# Altium schematic symbol library MCU_ST_STM32G0.SchLib: 252 symbols (part 3 of 5)
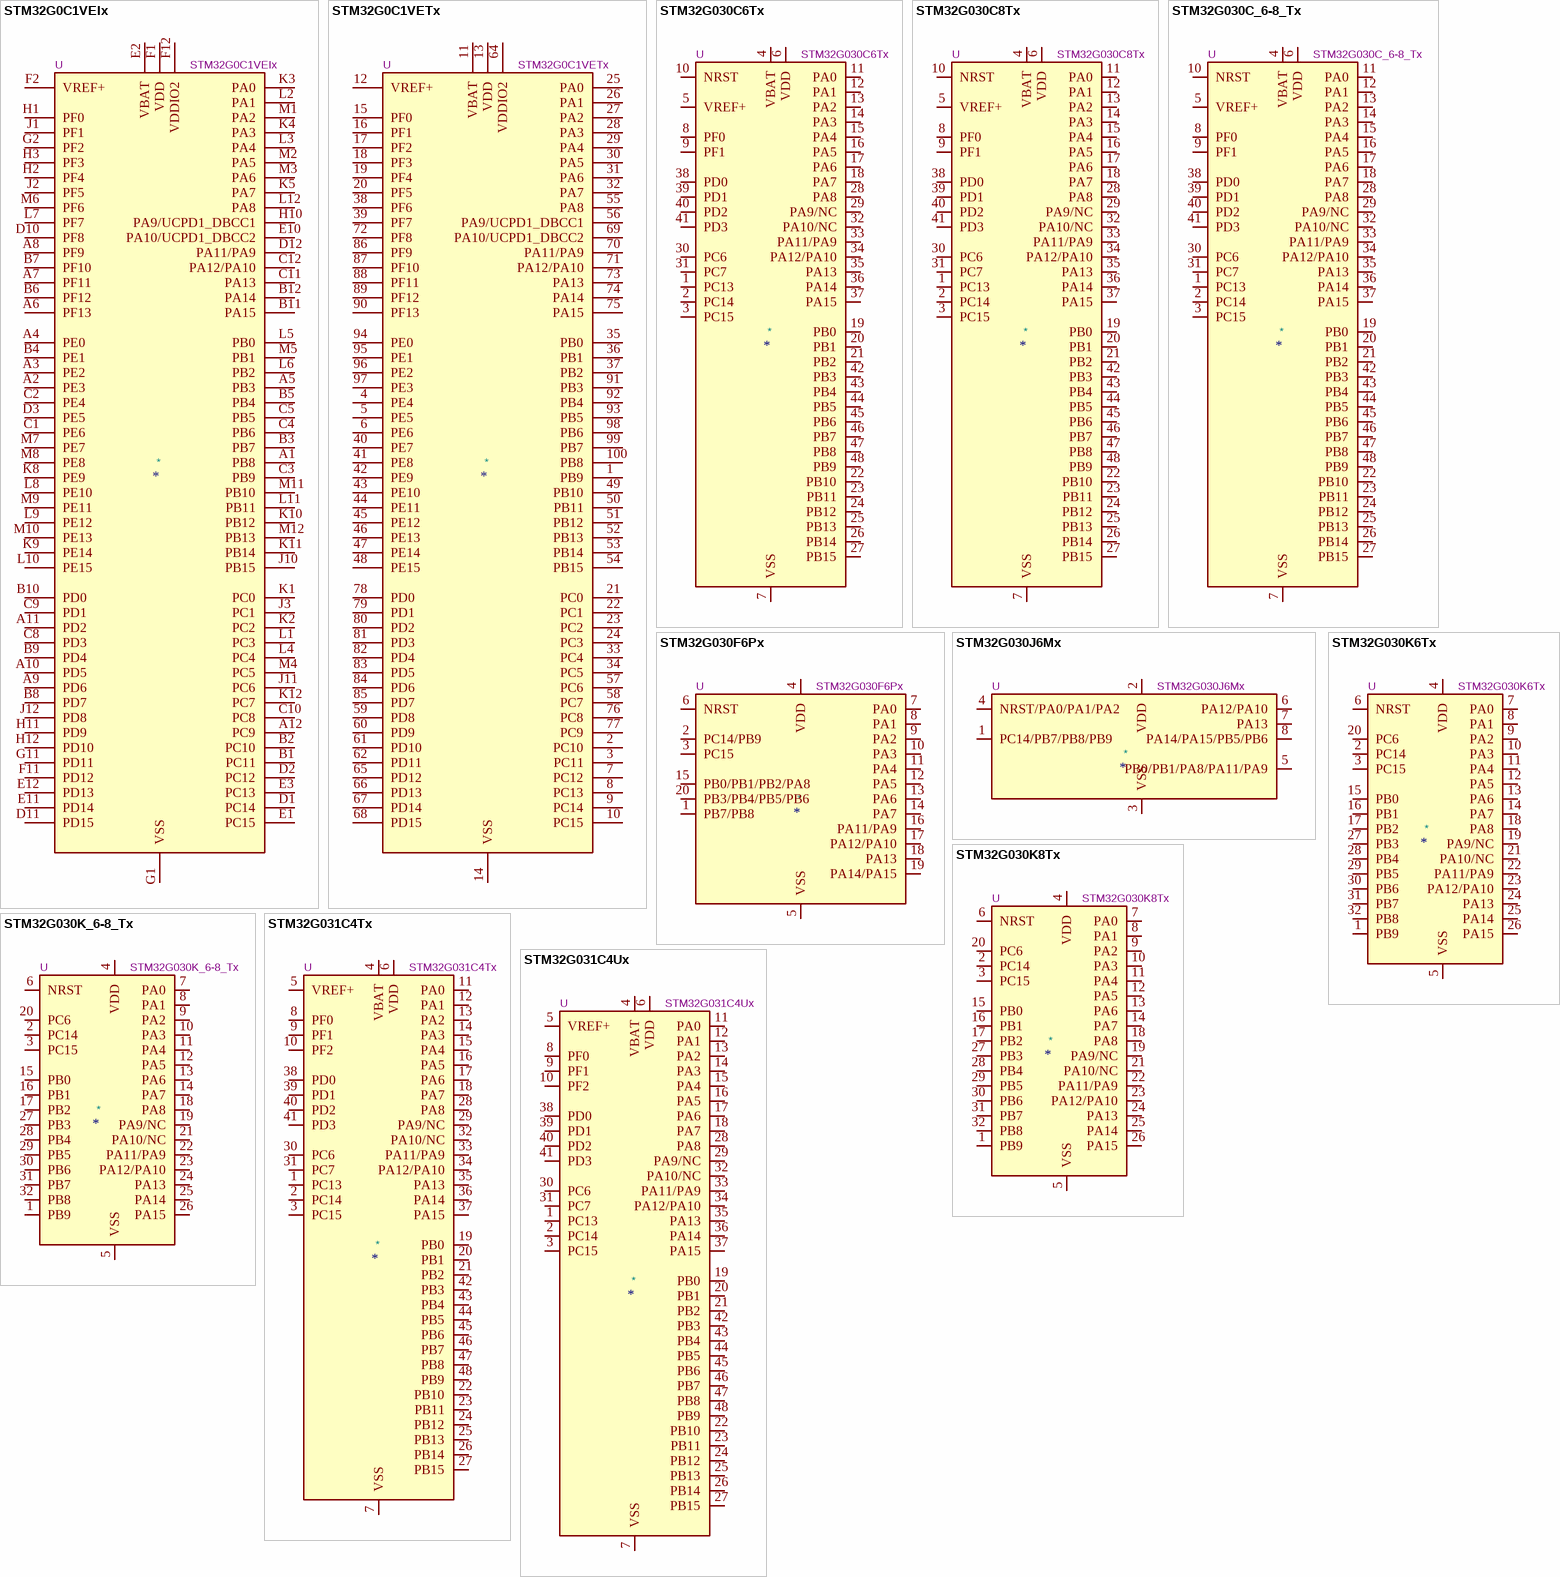
[diagram p21: symbols STM32G0C1VEIx to STM32G031C4Ux]

## STM32G030K8Tx
designator *  value STM32G030K8Tx  Reference: U
ki_keywords: Arm Cortex-M0+ STM32G0 STM32G0x0 Value line; ki_description: STMicroelectronics Arm Cortex-M0+ MCU, 64KB flash, 8KB RAM, 64 MHz, 2.0-3.6V, 29 GPIO, LQFP32; ki_fp_filters: LQFP*7x7mm*P0.8mm*; Footprint: Package_QFP:LQFP-32_7x7mm_P0.8mm; Datasheet: https://www.st.com/resource/en/datasheet/stm32g030k8.pdf
pins: 1 PB9, 2 PC14, 3 PC15, 4 VDD, 5 VSS, 6 NRST, 7 PA0, 8 PA1, 9 PA2, 10 PA3, 11 PA4, 12 PA5, 13 PA6, 14 PA7, 15 PB0, 16 PB1, 17 PB2, 18 PA8, 19 PA9/NC, 20 PC6, 21 PA10/NC, 22 PA11/PA9, 23 PA12/PA10, 24 PA13, 25 PA14, 26 PA15, 27 PB3, 28 PB4, 29 PB5, 30 PB6, 31 PB7, 32 PB8

## STM32G030K_6-8_Tx
designator *  value STM32G030K_6-8_Tx  Reference: U
ki_keywords: Arm Cortex-M0+ STM32G0 STM32G0x0 Value line; ki_description: STMicroelectronics Arm Cortex-M0+ MCU, 32-64KB flash, 8KB RAM, 64 MHz, 2.0-3.6V, 29 GPIO, LQFP32; ki_fp_filters: LQFP*7x7mm*P0.8mm*; Footprint: Package_QFP:LQFP-32_7x7mm_P0.8mm; Datasheet: https://www.st.com/resource/en/datasheet/stm32g030k6.pdf
pins: 1 PB9, 2 PC14, 3 PC15, 4 VDD, 5 VSS, 6 NRST, 7 PA0, 8 PA1, 9 PA2, 10 PA3, 11 PA4, 12 PA5, 13 PA6, 14 PA7, 15 PB0, 16 PB1, 17 PB2, 18 PA8, 19 PA9/NC, 20 PC6, 21 PA10/NC, 22 PA11/PA9, 23 PA12/PA10, 24 PA13, 25 PA14, 26 PA15, 27 PB3, 28 PB4, 29 PB5, 30 PB6, 31 PB7, 32 PB8

## STM32G031C4Tx
designator *  value STM32G031C4Tx  Reference: U
ki_keywords: Arm Cortex-M0+ STM32G0 STM32G0x1; ki_description: STMicroelectronics Arm Cortex-M0+ MCU, 16KB flash, 8KB RAM, 64 MHz, 1.7-3.6V, 44 GPIO, LQFP48; ki_fp_filters: LQFP*7x7mm*P0.5mm*; Footprint: Package_QFP:LQFP-48_7x7mm_P0.5mm; Datasheet: https://www.st.com/resource/en/datasheet/stm32g031c4.pdf
pins: 1 PC13, 2 PC14, 3 PC15, 4 VBAT, 5 VREF+, 6 VDD, 7 VSS, 8 PF0, 9 PF1, 10 PF2, 11 PA0, 12 PA1, 13 PA2, 14 PA3, 15 PA4, 16 PA5, 17 PA6, 18 PA7, 19 PB0, 20 PB1, 21 PB2, 22 PB10, 23 PB11, 24 PB12, 25 PB13, 26 PB14, 27 PB15, 28 PA8, 29 PA9/NC, 30 PC6, 31 PC7, 32 PA10/NC, 33 PA11/PA9, 34 PA12/PA10, 35 PA13, 36 PA14, 37 PA15, 38 PD0, 39 PD1, 40 PD2, 41 PD3, 42 PB3, 43 PB4, 44 PB5, 45 PB6, 46 PB7, 47 PB8, 48 PB9

## STM32G031C4Ux
designator *  value STM32G031C4Ux  Reference: U
ki_keywords: Arm Cortex-M0+ STM32G0 STM32G0x1; ki_description: STMicroelectronics Arm Cortex-M0+ MCU, 16KB flash, 8KB RAM, 64 MHz, 1.7-3.6V, 44 GPIO, UFQFPN48; ki_fp_filters: QFN*1EP*7x7mm*P0.5mm*; Footprint: Package_DFN_QFN:QFN-48-1EP_7x7mm_P0.5mm_EP5.6x5.6mm; Datasheet: https://www.st.com/resource/en/datasheet/stm32g031c4.pdf
pins: 1 PC13, 2 PC14, 3 PC15, 4 VBAT, 5 VREF+, 6 VDD, 7 VSS, 8 PF0, 9 PF1, 10 PF2, 11 PA0, 12 PA1, 13 PA2, 14 PA3, 15 PA4, 16 PA5, 17 PA6, 18 PA7, 19 PB0, 20 PB1, 21 PB2, 22 PB10, 23 PB11, 24 PB12, 25 PB13, 26 PB14, 27 PB15, 28 PA8, 29 PA9/NC, 30 PC6, 31 PC7, 32 PA10/NC, 33 PA11/PA9, 34 PA12/PA10, 35 PA13, 36 PA14, 37 PA15, 38 PD0, 39 PD1, 40 PD2, 41 PD3, 42 PB3, 43 PB4, 44 PB5, 45 PB6, 46 PB7, 47 PB8, 48 PB9, 49 VSS hidden

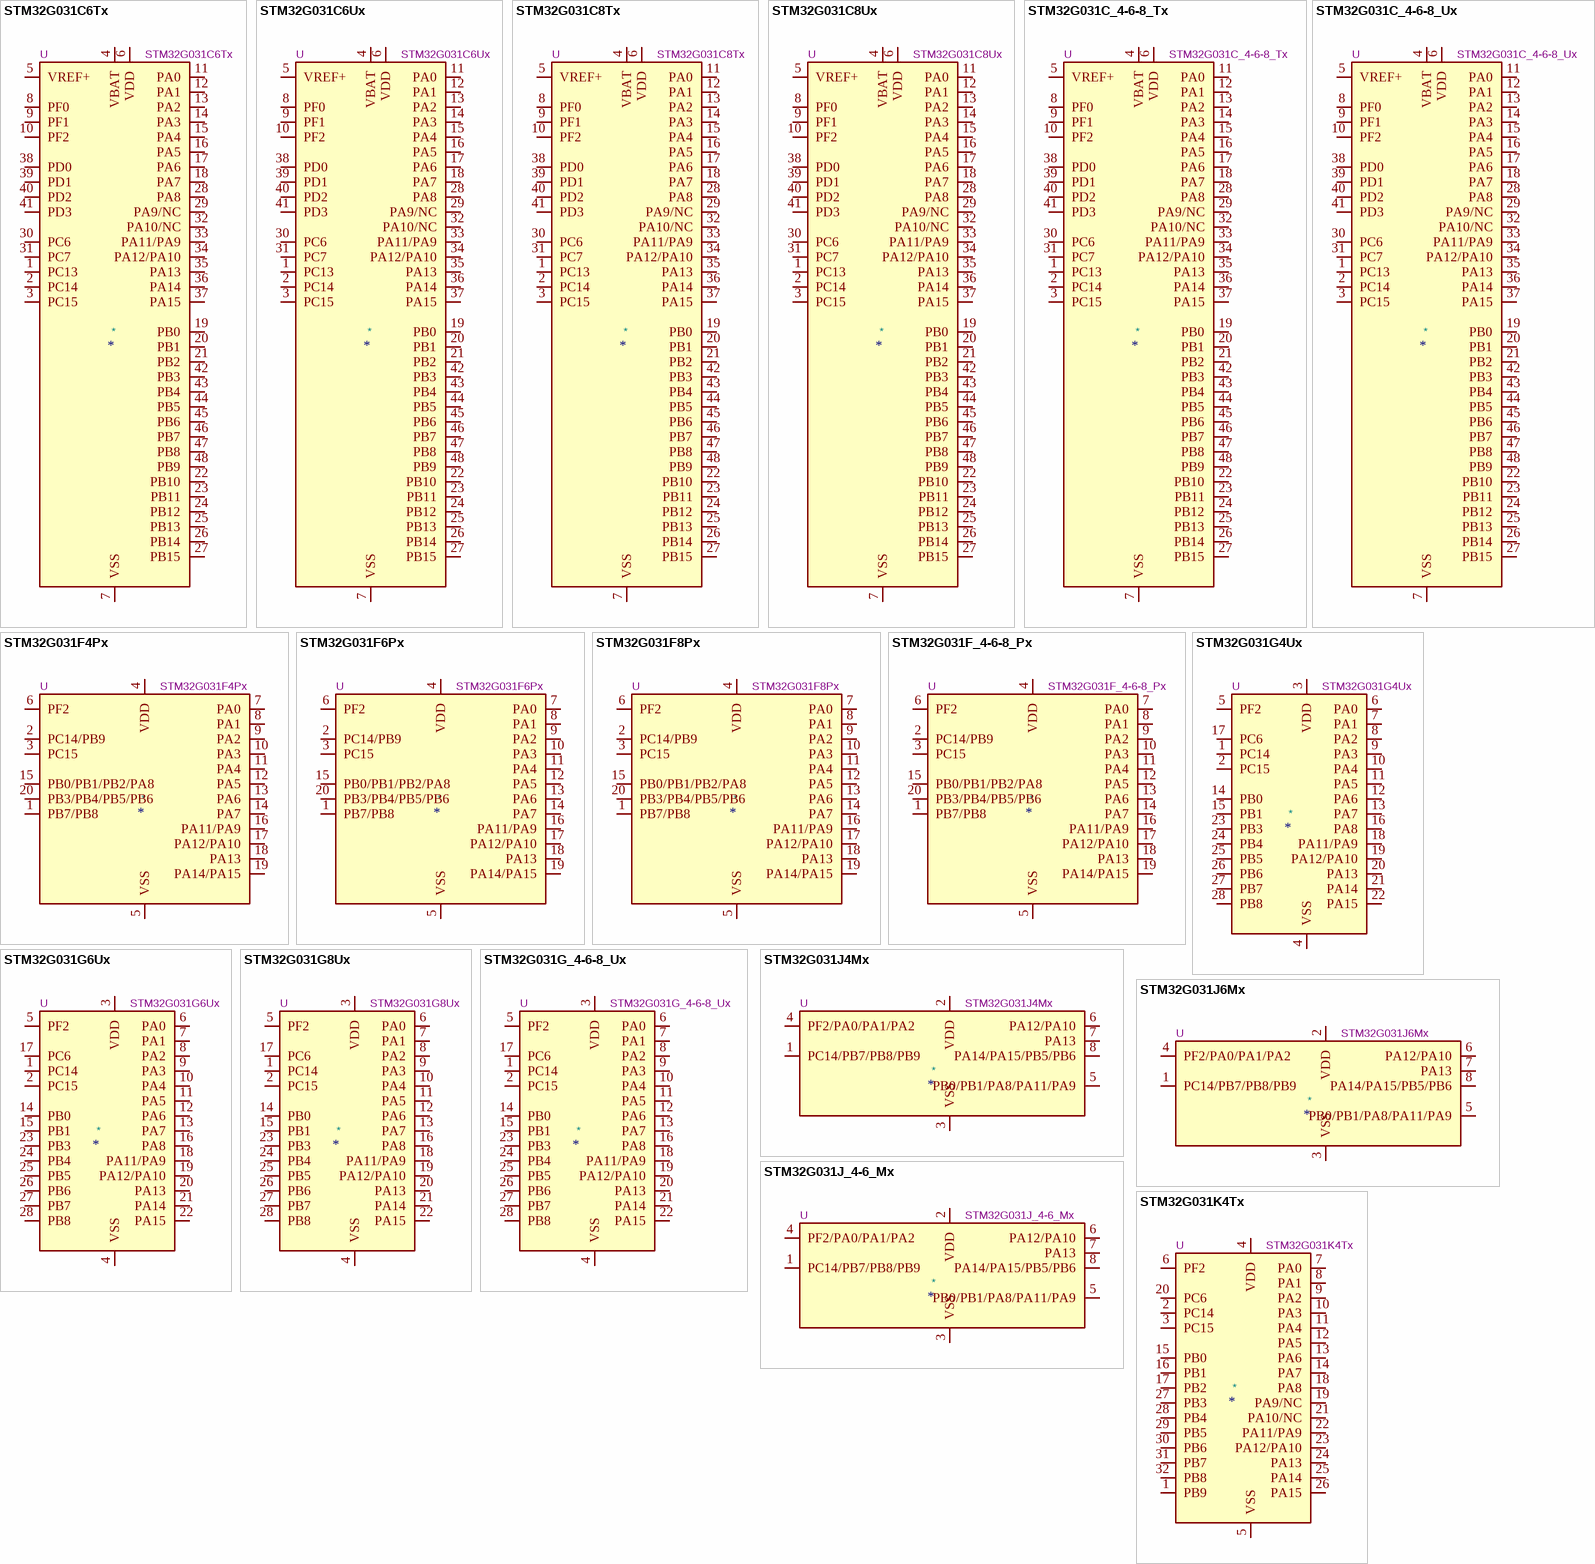
[diagram p11: symbols STM32G031C6Tx to STM32G031K4Tx]

## STM32G031C6Tx
designator *  value STM32G031C6Tx  Reference: U
ki_keywords: Arm Cortex-M0+ STM32G0 STM32G0x1; ki_description: STMicroelectronics Arm Cortex-M0+ MCU, 32KB flash, 8KB RAM, 64 MHz, 1.7-3.6V, 44 GPIO, LQFP48; ki_fp_filters: LQFP*7x7mm*P0.5mm*; Footprint: Package_QFP:LQFP-48_7x7mm_P0.5mm; Datasheet: https://www.st.com/resource/en/datasheet/stm32g031c6.pdf
pins: 1 PC13, 2 PC14, 3 PC15, 4 VBAT, 5 VREF+, 6 VDD, 7 VSS, 8 PF0, 9 PF1, 10 PF2, 11 PA0, 12 PA1, 13 PA2, 14 PA3, 15 PA4, 16 PA5, 17 PA6, 18 PA7, 19 PB0, 20 PB1, 21 PB2, 22 PB10, 23 PB11, 24 PB12, 25 PB13, 26 PB14, 27 PB15, 28 PA8, 29 PA9/NC, 30 PC6, 31 PC7, 32 PA10/NC, 33 PA11/PA9, 34 PA12/PA10, 35 PA13, 36 PA14, 37 PA15, 38 PD0, 39 PD1, 40 PD2, 41 PD3, 42 PB3, 43 PB4, 44 PB5, 45 PB6, 46 PB7, 47 PB8, 48 PB9

## STM32G031C6Ux
designator *  value STM32G031C6Ux  Reference: U
ki_keywords: Arm Cortex-M0+ STM32G0 STM32G0x1; ki_description: STMicroelectronics Arm Cortex-M0+ MCU, 32KB flash, 8KB RAM, 64 MHz, 1.7-3.6V, 44 GPIO, UFQFPN48; ki_fp_filters: QFN*1EP*7x7mm*P0.5mm*; Footprint: Package_DFN_QFN:QFN-48-1EP_7x7mm_P0.5mm_EP5.6x5.6mm; Datasheet: https://www.st.com/resource/en/datasheet/stm32g031c6.pdf
pins: 1 PC13, 2 PC14, 3 PC15, 4 VBAT, 5 VREF+, 6 VDD, 7 VSS, 8 PF0, 9 PF1, 10 PF2, 11 PA0, 12 PA1, 13 PA2, 14 PA3, 15 PA4, 16 PA5, 17 PA6, 18 PA7, 19 PB0, 20 PB1, 21 PB2, 22 PB10, 23 PB11, 24 PB12, 25 PB13, 26 PB14, 27 PB15, 28 PA8, 29 PA9/NC, 30 PC6, 31 PC7, 32 PA10/NC, 33 PA11/PA9, 34 PA12/PA10, 35 PA13, 36 PA14, 37 PA15, 38 PD0, 39 PD1, 40 PD2, 41 PD3, 42 PB3, 43 PB4, 44 PB5, 45 PB6, 46 PB7, 47 PB8, 48 PB9, 49 VSS hidden

## STM32G031C8Tx
designator *  value STM32G031C8Tx  Reference: U
ki_keywords: Arm Cortex-M0+ STM32G0 STM32G0x1; ki_description: STMicroelectronics Arm Cortex-M0+ MCU, 64KB flash, 8KB RAM, 64 MHz, 1.7-3.6V, 44 GPIO, LQFP48; ki_fp_filters: LQFP*7x7mm*P0.5mm*; Footprint: Package_QFP:LQFP-48_7x7mm_P0.5mm; Datasheet: https://www.st.com/resource/en/datasheet/stm32g031c8.pdf
pins: 1 PC13, 2 PC14, 3 PC15, 4 VBAT, 5 VREF+, 6 VDD, 7 VSS, 8 PF0, 9 PF1, 10 PF2, 11 PA0, 12 PA1, 13 PA2, 14 PA3, 15 PA4, 16 PA5, 17 PA6, 18 PA7, 19 PB0, 20 PB1, 21 PB2, 22 PB10, 23 PB11, 24 PB12, 25 PB13, 26 PB14, 27 PB15, 28 PA8, 29 PA9/NC, 30 PC6, 31 PC7, 32 PA10/NC, 33 PA11/PA9, 34 PA12/PA10, 35 PA13, 36 PA14, 37 PA15, 38 PD0, 39 PD1, 40 PD2, 41 PD3, 42 PB3, 43 PB4, 44 PB5, 45 PB6, 46 PB7, 47 PB8, 48 PB9

## STM32G031C8Ux
designator *  value STM32G031C8Ux  Reference: U
ki_keywords: Arm Cortex-M0+ STM32G0 STM32G0x1; ki_description: STMicroelectronics Arm Cortex-M0+ MCU, 64KB flash, 8KB RAM, 64 MHz, 1.7-3.6V, 44 GPIO, UFQFPN48; ki_fp_filters: QFN*1EP*7x7mm*P0.5mm*; Footprint: Package_DFN_QFN:QFN-48-1EP_7x7mm_P0.5mm_EP5.6x5.6mm; Datasheet: https://www.st.com/resource/en/datasheet/stm32g031c8.pdf
pins: 1 PC13, 2 PC14, 3 PC15, 4 VBAT, 5 VREF+, 6 VDD, 7 VSS, 8 PF0, 9 PF1, 10 PF2, 11 PA0, 12 PA1, 13 PA2, 14 PA3, 15 PA4, 16 PA5, 17 PA6, 18 PA7, 19 PB0, 20 PB1, 21 PB2, 22 PB10, 23 PB11, 24 PB12, 25 PB13, 26 PB14, 27 PB15, 28 PA8, 29 PA9/NC, 30 PC6, 31 PC7, 32 PA10/NC, 33 PA11/PA9, 34 PA12/PA10, 35 PA13, 36 PA14, 37 PA15, 38 PD0, 39 PD1, 40 PD2, 41 PD3, 42 PB3, 43 PB4, 44 PB5, 45 PB6, 46 PB7, 47 PB8, 48 PB9, 49 VSS hidden

## STM32G031C_4-6-8_Tx
designator *  value STM32G031C_4-6-8_Tx  Reference: U
ki_keywords: Arm Cortex-M0+ STM32G0 STM32G0x1; ki_description: STMicroelectronics Arm Cortex-M0+ MCU, 16-64KB flash, 8KB RAM, 64 MHz, 1.7-3.6V, 44 GPIO, LQFP48; ki_fp_filters: LQFP*7x7mm*P0.5mm*; Footprint: Package_QFP:LQFP-48_7x7mm_P0.5mm; Datasheet: https://www.st.com/resource/en/datasheet/stm32g031c4.pdf
pins: 1 PC13, 2 PC14, 3 PC15, 4 VBAT, 5 VREF+, 6 VDD, 7 VSS, 8 PF0, 9 PF1, 10 PF2, 11 PA0, 12 PA1, 13 PA2, 14 PA3, 15 PA4, 16 PA5, 17 PA6, 18 PA7, 19 PB0, 20 PB1, 21 PB2, 22 PB10, 23 PB11, 24 PB12, 25 PB13, 26 PB14, 27 PB15, 28 PA8, 29 PA9/NC, 30 PC6, 31 PC7, 32 PA10/NC, 33 PA11/PA9, 34 PA12/PA10, 35 PA13, 36 PA14, 37 PA15, 38 PD0, 39 PD1, 40 PD2, 41 PD3, 42 PB3, 43 PB4, 44 PB5, 45 PB6, 46 PB7, 47 PB8, 48 PB9

## STM32G031C_4-6-8_Ux
designator *  value STM32G031C_4-6-8_Ux  Reference: U
ki_keywords: Arm Cortex-M0+ STM32G0 STM32G0x1; ki_description: STMicroelectronics Arm Cortex-M0+ MCU, 16-64KB flash, 8KB RAM, 64 MHz, 1.7-3.6V, 44 GPIO, UFQFPN48; ki_fp_filters: QFN*1EP*7x7mm*P0.5mm*; Footprint: Package_DFN_QFN:QFN-48-1EP_7x7mm_P0.5mm_EP5.6x5.6mm; Datasheet: https://www.st.com/resource/en/datasheet/stm32g031c4.pdf
pins: 1 PC13, 2 PC14, 3 PC15, 4 VBAT, 5 VREF+, 6 VDD, 7 VSS, 8 PF0, 9 PF1, 10 PF2, 11 PA0, 12 PA1, 13 PA2, 14 PA3, 15 PA4, 16 PA5, 17 PA6, 18 PA7, 19 PB0, 20 PB1, 21 PB2, 22 PB10, 23 PB11, 24 PB12, 25 PB13, 26 PB14, 27 PB15, 28 PA8, 29 PA9/NC, 30 PC6, 31 PC7, 32 PA10/NC, 33 PA11/PA9, 34 PA12/PA10, 35 PA13, 36 PA14, 37 PA15, 38 PD0, 39 PD1, 40 PD2, 41 PD3, 42 PB3, 43 PB4, 44 PB5, 45 PB6, 46 PB7, 47 PB8, 48 PB9, 49 VSS hidden

## STM32G031F4Px
designator *  value STM32G031F4Px  Reference: U
ki_keywords: Arm Cortex-M0+ STM32G0 STM32G0x1; ki_description: STMicroelectronics Arm Cortex-M0+ MCU, 16KB flash, 8KB RAM, 64 MHz, 1.7-3.6V, 18 GPIO, TSSOP20; ki_fp_filters: TSSOP*4.4x6.5mm*P0.65mm*; Footprint: Package_SO:TSSOP-20_4.4x6.5mm_P0.65mm; Datasheet: https://www.st.com/resource/en/datasheet/stm32g031f4.pdf
pins: 1 PB7/PB8, 2 PC14/PB9, 3 PC15, 4 VDD, 5 VSS, 6 PF2, 7 PA0, 8 PA1, 9 PA2, 10 PA3, 11 PA4, 12 PA5, 13 PA6, 14 PA7, 15 PB0/PB1/PB2/PA8, 16 PA11/PA9, 17 PA12/PA10, 18 PA13, 19 PA14/PA15, 20 PB3/PB4/PB5/PB6

## STM32G031F6Px
designator *  value STM32G031F6Px  Reference: U
ki_keywords: Arm Cortex-M0+ STM32G0 STM32G0x1; ki_description: STMicroelectronics Arm Cortex-M0+ MCU, 32KB flash, 8KB RAM, 64 MHz, 1.7-3.6V, 18 GPIO, TSSOP20; ki_fp_filters: TSSOP*4.4x6.5mm*P0.65mm*; Footprint: Package_SO:TSSOP-20_4.4x6.5mm_P0.65mm; Datasheet: https://www.st.com/resource/en/datasheet/stm32g031f6.pdf
pins: 1 PB7/PB8, 2 PC14/PB9, 3 PC15, 4 VDD, 5 VSS, 6 PF2, 7 PA0, 8 PA1, 9 PA2, 10 PA3, 11 PA4, 12 PA5, 13 PA6, 14 PA7, 15 PB0/PB1/PB2/PA8, 16 PA11/PA9, 17 PA12/PA10, 18 PA13, 19 PA14/PA15, 20 PB3/PB4/PB5/PB6

## STM32G031F8Px
designator *  value STM32G031F8Px  Reference: U
ki_keywords: Arm Cortex-M0+ STM32G0 STM32G0x1; ki_description: STMicroelectronics Arm Cortex-M0+ MCU, 64KB flash, 8KB RAM, 64 MHz, 1.7-3.6V, 18 GPIO, TSSOP20; ki_fp_filters: TSSOP*4.4x6.5mm*P0.65mm*; Footprint: Package_SO:TSSOP-20_4.4x6.5mm_P0.65mm; Datasheet: https://www.st.com/resource/en/datasheet/stm32g031f8.pdf
pins: 1 PB7/PB8, 2 PC14/PB9, 3 PC15, 4 VDD, 5 VSS, 6 PF2, 7 PA0, 8 PA1, 9 PA2, 10 PA3, 11 PA4, 12 PA5, 13 PA6, 14 PA7, 15 PB0/PB1/PB2/PA8, 16 PA11/PA9, 17 PA12/PA10, 18 PA13, 19 PA14/PA15, 20 PB3/PB4/PB5/PB6

## STM32G031F_4-6-8_Px
designator *  value STM32G031F_4-6-8_Px  Reference: U
ki_keywords: Arm Cortex-M0+ STM32G0 STM32G0x1; ki_description: STMicroelectronics Arm Cortex-M0+ MCU, 16-64KB flash, 8KB RAM, 64 MHz, 1.7-3.6V, 18 GPIO, TSSOP20; ki_fp_filters: TSSOP*4.4x6.5mm*P0.65mm*; Footprint: Package_SO:TSSOP-20_4.4x6.5mm_P0.65mm; Datasheet: https://www.st.com/resource/en/datasheet/stm32g031f4.pdf
pins: 1 PB7/PB8, 2 PC14/PB9, 3 PC15, 4 VDD, 5 VSS, 6 PF2, 7 PA0, 8 PA1, 9 PA2, 10 PA3, 11 PA4, 12 PA5, 13 PA6, 14 PA7, 15 PB0/PB1/PB2/PA8, 16 PA11/PA9, 17 PA12/PA10, 18 PA13, 19 PA14/PA15, 20 PB3/PB4/PB5/PB6

## STM32G031G4Ux
designator *  value STM32G031G4Ux  Reference: U
ki_keywords: Arm Cortex-M0+ STM32G0 STM32G0x1; ki_description: STMicroelectronics Arm Cortex-M0+ MCU, 16KB flash, 8KB RAM, 64 MHz, 1.7-3.6V, 26 GPIO, UFQFPN28; ki_fp_filters: QFN*4x4mm*P0.5mm*; Footprint: Package_DFN_QFN:QFN-28_4x4mm_P0.5mm; Datasheet: https://www.st.com/resource/en/datasheet/stm32g031g4.pdf
pins: 1 PC14, 2 PC15, 3 VDD, 4 VSS, 5 PF2, 6 PA0, 7 PA1, 8 PA2, 9 PA3, 10 PA4, 11 PA5, 12 PA6, 13 PA7, 14 PB0, 15 PB1, 16 PA8, 17 PC6, 18 PA11/PA9, 19 PA12/PA10, 20 PA13, 21 PA14, 22 PA15, 23 PB3, 24 PB4, 25 PB5, 26 PB6, 27 PB7, 28 PB8

## STM32G031G6Ux
designator *  value STM32G031G6Ux  Reference: U
ki_keywords: Arm Cortex-M0+ STM32G0 STM32G0x1; ki_description: STMicroelectronics Arm Cortex-M0+ MCU, 32KB flash, 8KB RAM, 64 MHz, 1.7-3.6V, 26 GPIO, UFQFPN28; ki_fp_filters: QFN*4x4mm*P0.5mm*; Footprint: Package_DFN_QFN:QFN-28_4x4mm_P0.5mm; Datasheet: https://www.st.com/resource/en/datasheet/stm32g031g6.pdf
pins: 1 PC14, 2 PC15, 3 VDD, 4 VSS, 5 PF2, 6 PA0, 7 PA1, 8 PA2, 9 PA3, 10 PA4, 11 PA5, 12 PA6, 13 PA7, 14 PB0, 15 PB1, 16 PA8, 17 PC6, 18 PA11/PA9, 19 PA12/PA10, 20 PA13, 21 PA14, 22 PA15, 23 PB3, 24 PB4, 25 PB5, 26 PB6, 27 PB7, 28 PB8

## STM32G031G8Ux
designator *  value STM32G031G8Ux  Reference: U
ki_keywords: Arm Cortex-M0+ STM32G0 STM32G0x1; ki_description: STMicroelectronics Arm Cortex-M0+ MCU, 64KB flash, 8KB RAM, 64 MHz, 1.7-3.6V, 26 GPIO, UFQFPN28; ki_fp_filters: QFN*4x4mm*P0.5mm*; Footprint: Package_DFN_QFN:QFN-28_4x4mm_P0.5mm; Datasheet: https://www.st.com/resource/en/datasheet/stm32g031g8.pdf
pins: 1 PC14, 2 PC15, 3 VDD, 4 VSS, 5 PF2, 6 PA0, 7 PA1, 8 PA2, 9 PA3, 10 PA4, 11 PA5, 12 PA6, 13 PA7, 14 PB0, 15 PB1, 16 PA8, 17 PC6, 18 PA11/PA9, 19 PA12/PA10, 20 PA13, 21 PA14, 22 PA15, 23 PB3, 24 PB4, 25 PB5, 26 PB6, 27 PB7, 28 PB8

## STM32G031G_4-6-8_Ux
designator *  value STM32G031G_4-6-8_Ux  Reference: U
ki_keywords: Arm Cortex-M0+ STM32G0 STM32G0x1; ki_description: STMicroelectronics Arm Cortex-M0+ MCU, 16-64KB flash, 8KB RAM, 64 MHz, 1.7-3.6V, 26 GPIO, UFQFPN28; ki_fp_filters: QFN*4x4mm*P0.5mm*; Footprint: Package_DFN_QFN:QFN-28_4x4mm_P0.5mm; Datasheet: https://www.st.com/resource/en/datasheet/stm32g031g4.pdf
pins: 1 PC14, 2 PC15, 3 VDD, 4 VSS, 5 PF2, 6 PA0, 7 PA1, 8 PA2, 9 PA3, 10 PA4, 11 PA5, 12 PA6, 13 PA7, 14 PB0, 15 PB1, 16 PA8, 17 PC6, 18 PA11/PA9, 19 PA12/PA10, 20 PA13, 21 PA14, 22 PA15, 23 PB3, 24 PB4, 25 PB5, 26 PB6, 27 PB7, 28 PB8

## STM32G031J4Mx
designator *  value STM32G031J4Mx  Reference: U
ki_keywords: Arm Cortex-M0+ STM32G0 STM32G0x1; ki_description: STMicroelectronics Arm Cortex-M0+ MCU, 16KB flash, 8KB RAM, 64 MHz, 1.7-3.6V, 6 GPIO, SO8N; ki_fp_filters: SO*3.9x4.9mm*P1.27mm*; Footprint: Package_SO:SOIC-8_3.9x4.9mm_P1.27mm; Datasheet: https://www.st.com/resource/en/datasheet/stm32g031j4.pdf
pins: 1 PC14/PB7/PB8/PB9, 2 VDD, 3 VSS, 4 PF2/PA0/PA1/PA2, 5 PB0/PB1/PA8/PA11/PA9, 6 PA12/PA10, 7 PA13, 8 PA14/PA15/PB5/PB6

## STM32G031J6Mx
designator *  value STM32G031J6Mx  Reference: U
ki_keywords: Arm Cortex-M0+ STM32G0 STM32G0x1; ki_description: STMicroelectronics Arm Cortex-M0+ MCU, 32KB flash, 8KB RAM, 64 MHz, 1.7-3.6V, 6 GPIO, SO8N; ki_fp_filters: SO*3.9x4.9mm*P1.27mm*; Footprint: Package_SO:SOIC-8_3.9x4.9mm_P1.27mm; Datasheet: https://www.st.com/resource/en/datasheet/stm32g031j6.pdf
pins: 1 PC14/PB7/PB8/PB9, 2 VDD, 3 VSS, 4 PF2/PA0/PA1/PA2, 5 PB0/PB1/PA8/PA11/PA9, 6 PA12/PA10, 7 PA13, 8 PA14/PA15/PB5/PB6

## STM32G031J_4-6_Mx
designator *  value STM32G031J_4-6_Mx  Reference: U
ki_keywords: Arm Cortex-M0+ STM32G0 STM32G0x1; ki_description: STMicroelectronics Arm Cortex-M0+ MCU, 16-32KB flash, 8KB RAM, 64 MHz, 1.7-3.6V, 6 GPIO, SO8N; ki_fp_filters: SO*3.9x4.9mm*P1.27mm*; Footprint: Package_SO:SOIC-8_3.9x4.9mm_P1.27mm; Datasheet: https://www.st.com/resource/en/datasheet/stm32g031j4.pdf
pins: 1 PC14/PB7/PB8/PB9, 2 VDD, 3 VSS, 4 PF2/PA0/PA1/PA2, 5 PB0/PB1/PA8/PA11/PA9, 6 PA12/PA10, 7 PA13, 8 PA14/PA15/PB5/PB6

## STM32G031K4Tx
designator *  value STM32G031K4Tx  Reference: U
ki_keywords: Arm Cortex-M0+ STM32G0 STM32G0x1; ki_description: STMicroelectronics Arm Cortex-M0+ MCU, 16KB flash, 8KB RAM, 64 MHz, 1.7-3.6V, 30 GPIO, LQFP32; ki_fp_filters: LQFP*7x7mm*P0.8mm*; Footprint: Package_QFP:LQFP-32_7x7mm_P0.8mm; Datasheet: https://www.st.com/resource/en/datasheet/stm32g031k4.pdf
pins: 1 PB9, 2 PC14, 3 PC15, 4 VDD, 5 VSS, 6 PF2, 7 PA0, 8 PA1, 9 PA2, 10 PA3, 11 PA4, 12 PA5, 13 PA6, 14 PA7, 15 PB0, 16 PB1, 17 PB2, 18 PA8, 19 PA9/NC, 20 PC6, 21 PA10/NC, 22 PA11/PA9, 23 PA12/PA10, 24 PA13, 25 PA14, 26 PA15, 27 PB3, 28 PB4, 29 PB5, 30 PB6, 31 PB7, 32 PB8

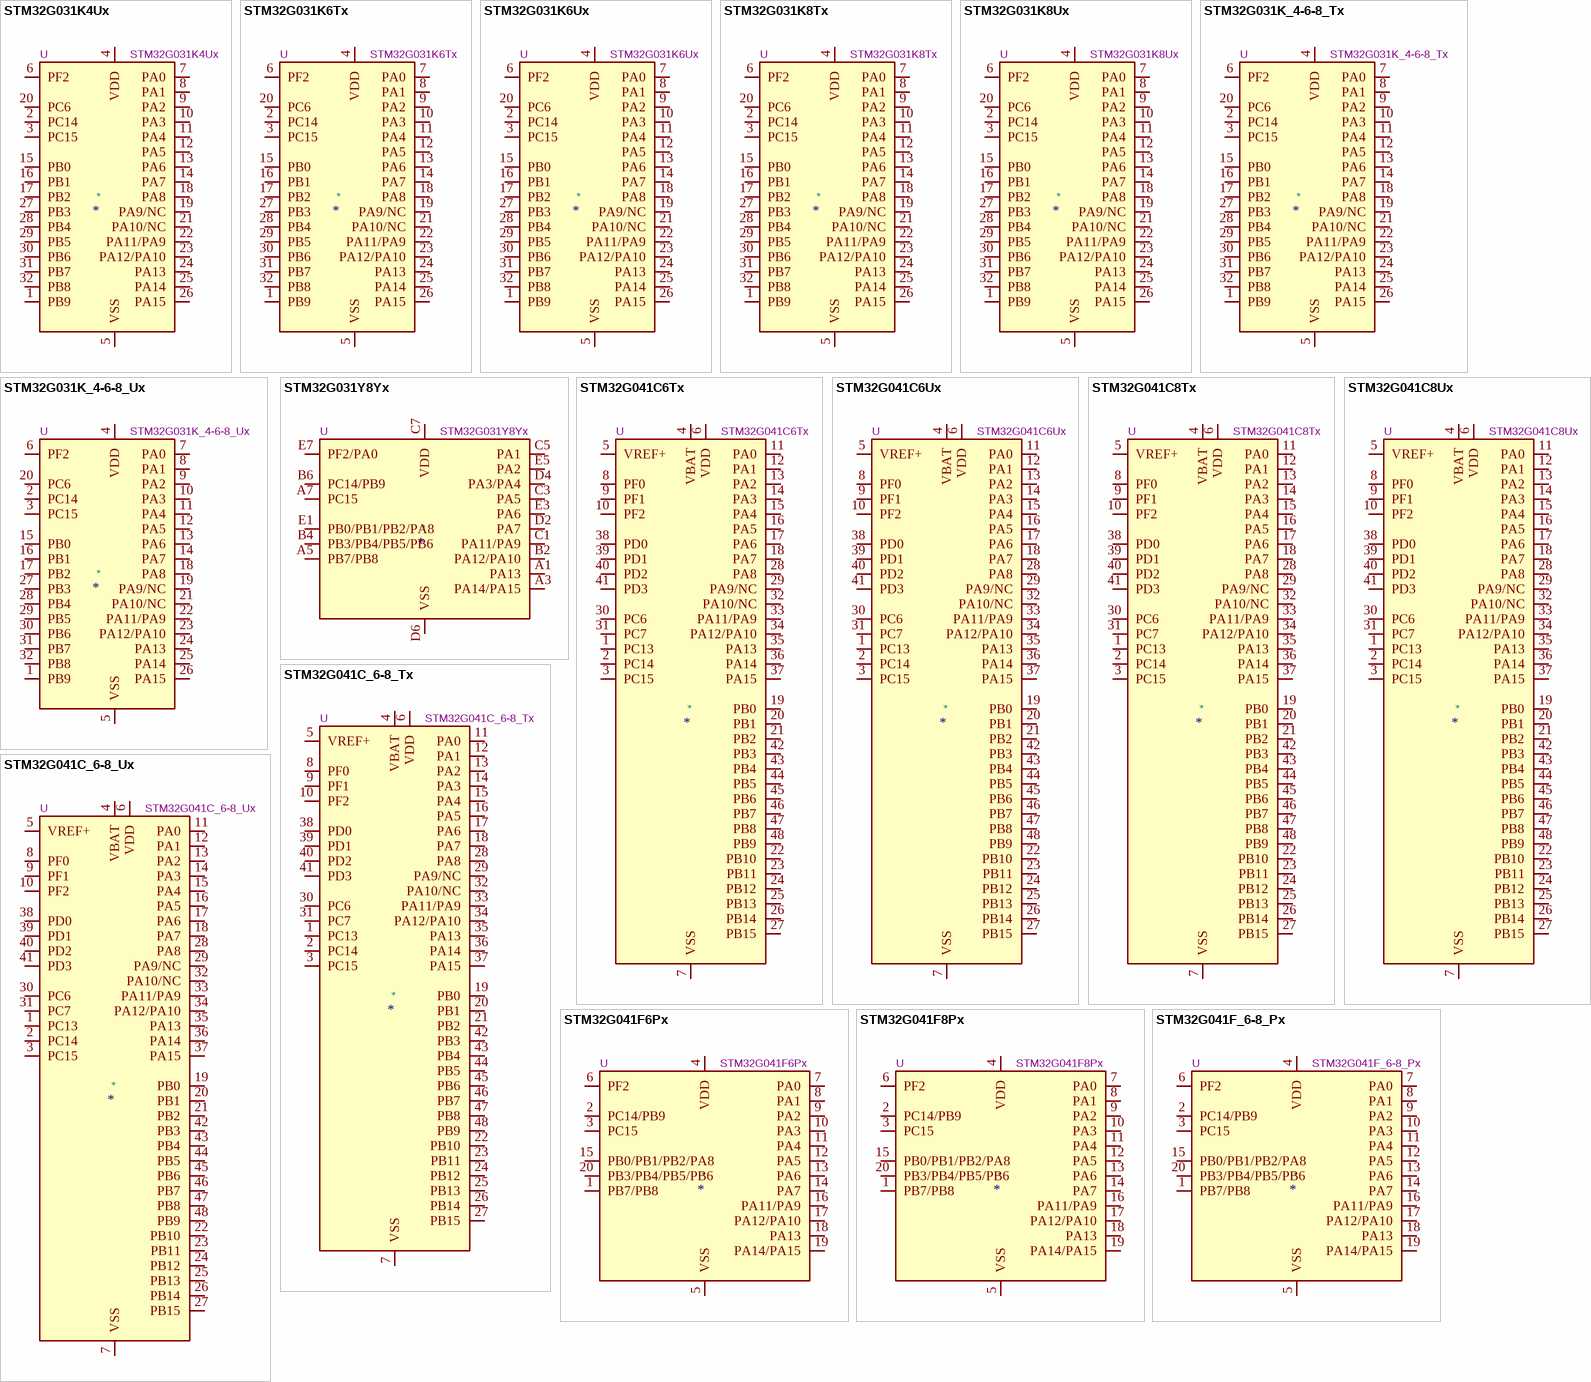
[diagram p12: symbols STM32G031K4Ux to STM32G041F_6-8_Px]

## STM32G031K4Ux
designator *  value STM32G031K4Ux  Reference: U
ki_keywords: Arm Cortex-M0+ STM32G0 STM32G0x1; ki_description: STMicroelectronics Arm Cortex-M0+ MCU, 16KB flash, 8KB RAM, 64 MHz, 1.7-3.6V, 30 GPIO, UFQFPN32; ki_fp_filters: QFN*1EP*5x5mm*P0.5mm*; Footprint: Package_DFN_QFN:QFN-32-1EP_5x5mm_P0.5mm_EP3.45x3.45mm; Datasheet: https://www.st.com/resource/en/datasheet/stm32g031k4.pdf
pins: 1 PB9, 2 PC14, 3 PC15, 4 VDD, 5 VSS, 6 PF2, 7 PA0, 8 PA1, 9 PA2, 10 PA3, 11 PA4, 12 PA5, 13 PA6, 14 PA7, 15 PB0, 16 PB1, 17 PB2, 18 PA8, 19 PA9/NC, 20 PC6, 21 PA10/NC, 22 PA11/PA9, 23 PA12/PA10, 24 PA13, 25 PA14, 26 PA15, 27 PB3, 28 PB4, 29 PB5, 30 PB6, 31 PB7, 32 PB8, 33 VSS hidden

## STM32G031K6Tx
designator *  value STM32G031K6Tx  Reference: U
ki_keywords: Arm Cortex-M0+ STM32G0 STM32G0x1; ki_description: STMicroelectronics Arm Cortex-M0+ MCU, 32KB flash, 8KB RAM, 64 MHz, 1.7-3.6V, 30 GPIO, LQFP32; ki_fp_filters: LQFP*7x7mm*P0.8mm*; Footprint: Package_QFP:LQFP-32_7x7mm_P0.8mm; Datasheet: https://www.st.com/resource/en/datasheet/stm32g031k6.pdf
pins: 1 PB9, 2 PC14, 3 PC15, 4 VDD, 5 VSS, 6 PF2, 7 PA0, 8 PA1, 9 PA2, 10 PA3, 11 PA4, 12 PA5, 13 PA6, 14 PA7, 15 PB0, 16 PB1, 17 PB2, 18 PA8, 19 PA9/NC, 20 PC6, 21 PA10/NC, 22 PA11/PA9, 23 PA12/PA10, 24 PA13, 25 PA14, 26 PA15, 27 PB3, 28 PB4, 29 PB5, 30 PB6, 31 PB7, 32 PB8

## STM32G031K6Ux
designator *  value STM32G031K6Ux  Reference: U
ki_keywords: Arm Cortex-M0+ STM32G0 STM32G0x1; ki_description: STMicroelectronics Arm Cortex-M0+ MCU, 32KB flash, 8KB RAM, 64 MHz, 1.7-3.6V, 30 GPIO, UFQFPN32; ki_fp_filters: QFN*1EP*5x5mm*P0.5mm*; Footprint: Package_DFN_QFN:QFN-32-1EP_5x5mm_P0.5mm_EP3.45x3.45mm; Datasheet: https://www.st.com/resource/en/datasheet/stm32g031k6.pdf
pins: 1 PB9, 2 PC14, 3 PC15, 4 VDD, 5 VSS, 6 PF2, 7 PA0, 8 PA1, 9 PA2, 10 PA3, 11 PA4, 12 PA5, 13 PA6, 14 PA7, 15 PB0, 16 PB1, 17 PB2, 18 PA8, 19 PA9/NC, 20 PC6, 21 PA10/NC, 22 PA11/PA9, 23 PA12/PA10, 24 PA13, 25 PA14, 26 PA15, 27 PB3, 28 PB4, 29 PB5, 30 PB6, 31 PB7, 32 PB8, 33 VSS hidden

## STM32G031K8Tx
designator *  value STM32G031K8Tx  Reference: U
ki_keywords: Arm Cortex-M0+ STM32G0 STM32G0x1; ki_description: STMicroelectronics Arm Cortex-M0+ MCU, 64KB flash, 8KB RAM, 64 MHz, 1.7-3.6V, 30 GPIO, LQFP32; ki_fp_filters: LQFP*7x7mm*P0.8mm*; Footprint: Package_QFP:LQFP-32_7x7mm_P0.8mm; Datasheet: https://www.st.com/resource/en/datasheet/stm32g031k8.pdf
pins: 1 PB9, 2 PC14, 3 PC15, 4 VDD, 5 VSS, 6 PF2, 7 PA0, 8 PA1, 9 PA2, 10 PA3, 11 PA4, 12 PA5, 13 PA6, 14 PA7, 15 PB0, 16 PB1, 17 PB2, 18 PA8, 19 PA9/NC, 20 PC6, 21 PA10/NC, 22 PA11/PA9, 23 PA12/PA10, 24 PA13, 25 PA14, 26 PA15, 27 PB3, 28 PB4, 29 PB5, 30 PB6, 31 PB7, 32 PB8

## STM32G031K8Ux
designator *  value STM32G031K8Ux  Reference: U
ki_keywords: Arm Cortex-M0+ STM32G0 STM32G0x1; ki_description: STMicroelectronics Arm Cortex-M0+ MCU, 64KB flash, 8KB RAM, 64 MHz, 1.7-3.6V, 30 GPIO, UFQFPN32; ki_fp_filters: QFN*1EP*5x5mm*P0.5mm*; Footprint: Package_DFN_QFN:QFN-32-1EP_5x5mm_P0.5mm_EP3.45x3.45mm; Datasheet: https://www.st.com/resource/en/datasheet/stm32g031k8.pdf
pins: 1 PB9, 2 PC14, 3 PC15, 4 VDD, 5 VSS, 6 PF2, 7 PA0, 8 PA1, 9 PA2, 10 PA3, 11 PA4, 12 PA5, 13 PA6, 14 PA7, 15 PB0, 16 PB1, 17 PB2, 18 PA8, 19 PA9/NC, 20 PC6, 21 PA10/NC, 22 PA11/PA9, 23 PA12/PA10, 24 PA13, 25 PA14, 26 PA15, 27 PB3, 28 PB4, 29 PB5, 30 PB6, 31 PB7, 32 PB8, 33 VSS hidden

## STM32G031K_4-6-8_Tx
designator *  value STM32G031K_4-6-8_Tx  Reference: U
ki_keywords: Arm Cortex-M0+ STM32G0 STM32G0x1; ki_description: STMicroelectronics Arm Cortex-M0+ MCU, 16-64KB flash, 8KB RAM, 64 MHz, 1.7-3.6V, 30 GPIO, LQFP32; ki_fp_filters: LQFP*7x7mm*P0.8mm*; Footprint: Package_QFP:LQFP-32_7x7mm_P0.8mm; Datasheet: https://www.st.com/resource/en/datasheet/stm32g031k4.pdf
pins: 1 PB9, 2 PC14, 3 PC15, 4 VDD, 5 VSS, 6 PF2, 7 PA0, 8 PA1, 9 PA2, 10 PA3, 11 PA4, 12 PA5, 13 PA6, 14 PA7, 15 PB0, 16 PB1, 17 PB2, 18 PA8, 19 PA9/NC, 20 PC6, 21 PA10/NC, 22 PA11/PA9, 23 PA12/PA10, 24 PA13, 25 PA14, 26 PA15, 27 PB3, 28 PB4, 29 PB5, 30 PB6, 31 PB7, 32 PB8

## STM32G031K_4-6-8_Ux
designator *  value STM32G031K_4-6-8_Ux  Reference: U
ki_keywords: Arm Cortex-M0+ STM32G0 STM32G0x1; ki_description: STMicroelectronics Arm Cortex-M0+ MCU, 16-64KB flash, 8KB RAM, 64 MHz, 1.7-3.6V, 30 GPIO, UFQFPN32; ki_fp_filters: QFN*1EP*5x5mm*P0.5mm*; Footprint: Package_DFN_QFN:QFN-32-1EP_5x5mm_P0.5mm_EP3.45x3.45mm; Datasheet: https://www.st.com/resource/en/datasheet/stm32g031k4.pdf
pins: 1 PB9, 2 PC14, 3 PC15, 4 VDD, 5 VSS, 6 PF2, 7 PA0, 8 PA1, 9 PA2, 10 PA3, 11 PA4, 12 PA5, 13 PA6, 14 PA7, 15 PB0, 16 PB1, 17 PB2, 18 PA8, 19 PA9/NC, 20 PC6, 21 PA10/NC, 22 PA11/PA9, 23 PA12/PA10, 24 PA13, 25 PA14, 26 PA15, 27 PB3, 28 PB4, 29 PB5, 30 PB6, 31 PB7, 32 PB8, 33 VSS hidden

## STM32G031Y8Yx
designator *  value STM32G031Y8Yx  Reference: U
ki_keywords: Arm Cortex-M0+ STM32G0 STM32G0x1; ki_description: STMicroelectronics Arm Cortex-M0+ MCU, 64KB flash, 8KB RAM, 64 MHz, 1.7-3.6V, 16 GPIO, WLCSP18; Footprint: Package_CSP:ST_WLCSP-18_1.86x2.14mm_P0.4mm_Stagger; Datasheet: https://www.st.com/resource/en/datasheet/stm32g031y8.pdf; ki_fp_filters: *
pins: A1 PA13, A3 PA14/PA15, A5 PB7/PB8, A7 PC15, B2 PA12/PA10, B4 PB3/PB4/PB5/PB6, B6 PC14/PB9, C1 PA11/PA9, C3 PA5, C5 PA1, C7 VDD, D2 PA7, D4 PA3/PA4, D6 VSS, E1 PB0/PB1/PB2/PA8, E3 PA6, E5 PA2, E7 PF2/PA0

## STM32G041C6Tx
designator *  value STM32G041C6Tx  Reference: U
ki_keywords: Arm Cortex-M0+ STM32G0 STM32G0x1; ki_description: STMicroelectronics Arm Cortex-M0+ MCU, 32KB flash, 8KB RAM, 64 MHz, 1.7-3.6V, 44 GPIO, LQFP48; ki_fp_filters: LQFP*7x7mm*P0.5mm*; Footprint: Package_QFP:LQFP-48_7x7mm_P0.5mm; Datasheet: https://www.st.com/resource/en/datasheet/stm32g041c6.pdf
pins: 1 PC13, 2 PC14, 3 PC15, 4 VBAT, 5 VREF+, 6 VDD, 7 VSS, 8 PF0, 9 PF1, 10 PF2, 11 PA0, 12 PA1, 13 PA2, 14 PA3, 15 PA4, 16 PA5, 17 PA6, 18 PA7, 19 PB0, 20 PB1, 21 PB2, 22 PB10, 23 PB11, 24 PB12, 25 PB13, 26 PB14, 27 PB15, 28 PA8, 29 PA9/NC, 30 PC6, 31 PC7, 32 PA10/NC, 33 PA11/PA9, 34 PA12/PA10, 35 PA13, 36 PA14, 37 PA15, 38 PD0, 39 PD1, 40 PD2, 41 PD3, 42 PB3, 43 PB4, 44 PB5, 45 PB6, 46 PB7, 47 PB8, 48 PB9

## STM32G041C6Ux
designator *  value STM32G041C6Ux  Reference: U
ki_keywords: Arm Cortex-M0+ STM32G0 STM32G0x1; ki_description: STMicroelectronics Arm Cortex-M0+ MCU, 32KB flash, 8KB RAM, 64 MHz, 1.7-3.6V, 44 GPIO, UFQFPN48; ki_fp_filters: QFN*1EP*7x7mm*P0.5mm*; Footprint: Package_DFN_QFN:QFN-48-1EP_7x7mm_P0.5mm_EP5.6x5.6mm; Datasheet: https://www.st.com/resource/en/datasheet/stm32g041c6.pdf
pins: 1 PC13, 2 PC14, 3 PC15, 4 VBAT, 5 VREF+, 6 VDD, 7 VSS, 8 PF0, 9 PF1, 10 PF2, 11 PA0, 12 PA1, 13 PA2, 14 PA3, 15 PA4, 16 PA5, 17 PA6, 18 PA7, 19 PB0, 20 PB1, 21 PB2, 22 PB10, 23 PB11, 24 PB12, 25 PB13, 26 PB14, 27 PB15, 28 PA8, 29 PA9/NC, 30 PC6, 31 PC7, 32 PA10/NC, 33 PA11/PA9, 34 PA12/PA10, 35 PA13, 36 PA14, 37 PA15, 38 PD0, 39 PD1, 40 PD2, 41 PD3, 42 PB3, 43 PB4, 44 PB5, 45 PB6, 46 PB7, 47 PB8, 48 PB9, 49 VSS hidden

## STM32G041C8Tx
designator *  value STM32G041C8Tx  Reference: U
ki_keywords: Arm Cortex-M0+ STM32G0 STM32G0x1; ki_description: STMicroelectronics Arm Cortex-M0+ MCU, 64KB flash, 8KB RAM, 64 MHz, 1.7-3.6V, 44 GPIO, LQFP48; ki_fp_filters: LQFP*7x7mm*P0.5mm*; Footprint: Package_QFP:LQFP-48_7x7mm_P0.5mm; Datasheet: https://www.st.com/resource/en/datasheet/stm32g041c8.pdf
pins: 1 PC13, 2 PC14, 3 PC15, 4 VBAT, 5 VREF+, 6 VDD, 7 VSS, 8 PF0, 9 PF1, 10 PF2, 11 PA0, 12 PA1, 13 PA2, 14 PA3, 15 PA4, 16 PA5, 17 PA6, 18 PA7, 19 PB0, 20 PB1, 21 PB2, 22 PB10, 23 PB11, 24 PB12, 25 PB13, 26 PB14, 27 PB15, 28 PA8, 29 PA9/NC, 30 PC6, 31 PC7, 32 PA10/NC, 33 PA11/PA9, 34 PA12/PA10, 35 PA13, 36 PA14, 37 PA15, 38 PD0, 39 PD1, 40 PD2, 41 PD3, 42 PB3, 43 PB4, 44 PB5, 45 PB6, 46 PB7, 47 PB8, 48 PB9

## STM32G041C8Ux
designator *  value STM32G041C8Ux  Reference: U
ki_keywords: Arm Cortex-M0+ STM32G0 STM32G0x1; ki_description: STMicroelectronics Arm Cortex-M0+ MCU, 64KB flash, 8KB RAM, 64 MHz, 1.7-3.6V, 44 GPIO, UFQFPN48; ki_fp_filters: QFN*1EP*7x7mm*P0.5mm*; Footprint: Package_DFN_QFN:QFN-48-1EP_7x7mm_P0.5mm_EP5.6x5.6mm; Datasheet: https://www.st.com/resource/en/datasheet/stm32g041c8.pdf
pins: 1 PC13, 2 PC14, 3 PC15, 4 VBAT, 5 VREF+, 6 VDD, 7 VSS, 8 PF0, 9 PF1, 10 PF2, 11 PA0, 12 PA1, 13 PA2, 14 PA3, 15 PA4, 16 PA5, 17 PA6, 18 PA7, 19 PB0, 20 PB1, 21 PB2, 22 PB10, 23 PB11, 24 PB12, 25 PB13, 26 PB14, 27 PB15, 28 PA8, 29 PA9/NC, 30 PC6, 31 PC7, 32 PA10/NC, 33 PA11/PA9, 34 PA12/PA10, 35 PA13, 36 PA14, 37 PA15, 38 PD0, 39 PD1, 40 PD2, 41 PD3, 42 PB3, 43 PB4, 44 PB5, 45 PB6, 46 PB7, 47 PB8, 48 PB9, 49 VSS hidden

## STM32G041C_6-8_Tx
designator *  value STM32G041C_6-8_Tx  Reference: U
ki_keywords: Arm Cortex-M0+ STM32G0 STM32G0x1; ki_description: STMicroelectronics Arm Cortex-M0+ MCU, 32-64KB flash, 8KB RAM, 64 MHz, 1.7-3.6V, 44 GPIO, LQFP48; ki_fp_filters: LQFP*7x7mm*P0.5mm*; Footprint: Package_QFP:LQFP-48_7x7mm_P0.5mm; Datasheet: https://www.st.com/resource/en/datasheet/stm32g041c6.pdf
pins: 1 PC13, 2 PC14, 3 PC15, 4 VBAT, 5 VREF+, 6 VDD, 7 VSS, 8 PF0, 9 PF1, 10 PF2, 11 PA0, 12 PA1, 13 PA2, 14 PA3, 15 PA4, 16 PA5, 17 PA6, 18 PA7, 19 PB0, 20 PB1, 21 PB2, 22 PB10, 23 PB11, 24 PB12, 25 PB13, 26 PB14, 27 PB15, 28 PA8, 29 PA9/NC, 30 PC6, 31 PC7, 32 PA10/NC, 33 PA11/PA9, 34 PA12/PA10, 35 PA13, 36 PA14, 37 PA15, 38 PD0, 39 PD1, 40 PD2, 41 PD3, 42 PB3, 43 PB4, 44 PB5, 45 PB6, 46 PB7, 47 PB8, 48 PB9

## STM32G041C_6-8_Ux
designator *  value STM32G041C_6-8_Ux  Reference: U
ki_keywords: Arm Cortex-M0+ STM32G0 STM32G0x1; ki_description: STMicroelectronics Arm Cortex-M0+ MCU, 32-64KB flash, 8KB RAM, 64 MHz, 1.7-3.6V, 44 GPIO, UFQFPN48; ki_fp_filters: QFN*1EP*7x7mm*P0.5mm*; Footprint: Package_DFN_QFN:QFN-48-1EP_7x7mm_P0.5mm_EP5.6x5.6mm; Datasheet: https://www.st.com/resource/en/datasheet/stm32g041c6.pdf
pins: 1 PC13, 2 PC14, 3 PC15, 4 VBAT, 5 VREF+, 6 VDD, 7 VSS, 8 PF0, 9 PF1, 10 PF2, 11 PA0, 12 PA1, 13 PA2, 14 PA3, 15 PA4, 16 PA5, 17 PA6, 18 PA7, 19 PB0, 20 PB1, 21 PB2, 22 PB10, 23 PB11, 24 PB12, 25 PB13, 26 PB14, 27 PB15, 28 PA8, 29 PA9/NC, 30 PC6, 31 PC7, 32 PA10/NC, 33 PA11/PA9, 34 PA12/PA10, 35 PA13, 36 PA14, 37 PA15, 38 PD0, 39 PD1, 40 PD2, 41 PD3, 42 PB3, 43 PB4, 44 PB5, 45 PB6, 46 PB7, 47 PB8, 48 PB9, 49 VSS hidden

## STM32G041F6Px
designator *  value STM32G041F6Px  Reference: U
ki_keywords: Arm Cortex-M0+ STM32G0 STM32G0x1; ki_description: STMicroelectronics Arm Cortex-M0+ MCU, 32KB flash, 8KB RAM, 64 MHz, 1.7-3.6V, 18 GPIO, TSSOP20; ki_fp_filters: TSSOP*4.4x6.5mm*P0.65mm*; Footprint: Package_SO:TSSOP-20_4.4x6.5mm_P0.65mm; Datasheet: https://www.st.com/resource/en/datasheet/stm32g041f6.pdf
pins: 1 PB7/PB8, 2 PC14/PB9, 3 PC15, 4 VDD, 5 VSS, 6 PF2, 7 PA0, 8 PA1, 9 PA2, 10 PA3, 11 PA4, 12 PA5, 13 PA6, 14 PA7, 15 PB0/PB1/PB2/PA8, 16 PA11/PA9, 17 PA12/PA10, 18 PA13, 19 PA14/PA15, 20 PB3/PB4/PB5/PB6

## STM32G041F8Px
designator *  value STM32G041F8Px  Reference: U
ki_keywords: Arm Cortex-M0+ STM32G0 STM32G0x1; ki_description: STMicroelectronics Arm Cortex-M0+ MCU, 64KB flash, 8KB RAM, 64 MHz, 1.7-3.6V, 18 GPIO, TSSOP20; ki_fp_filters: TSSOP*4.4x6.5mm*P0.65mm*; Footprint: Package_SO:TSSOP-20_4.4x6.5mm_P0.65mm; Datasheet: https://www.st.com/resource/en/datasheet/stm32g041f8.pdf
pins: 1 PB7/PB8, 2 PC14/PB9, 3 PC15, 4 VDD, 5 VSS, 6 PF2, 7 PA0, 8 PA1, 9 PA2, 10 PA3, 11 PA4, 12 PA5, 13 PA6, 14 PA7, 15 PB0/PB1/PB2/PA8, 16 PA11/PA9, 17 PA12/PA10, 18 PA13, 19 PA14/PA15, 20 PB3/PB4/PB5/PB6

## STM32G041F_6-8_Px
designator *  value STM32G041F_6-8_Px  Reference: U
ki_keywords: Arm Cortex-M0+ STM32G0 STM32G0x1; ki_description: STMicroelectronics Arm Cortex-M0+ MCU, 32-64KB flash, 8KB RAM, 64 MHz, 1.7-3.6V, 18 GPIO, TSSOP20; ki_fp_filters: TSSOP*4.4x6.5mm*P0.65mm*; Footprint: Package_SO:TSSOP-20_4.4x6.5mm_P0.65mm; Datasheet: https://www.st.com/resource/en/datasheet/stm32g041f6.pdf
pins: 1 PB7/PB8, 2 PC14/PB9, 3 PC15, 4 VDD, 5 VSS, 6 PF2, 7 PA0, 8 PA1, 9 PA2, 10 PA3, 11 PA4, 12 PA5, 13 PA6, 14 PA7, 15 PB0/PB1/PB2/PA8, 16 PA11/PA9, 17 PA12/PA10, 18 PA13, 19 PA14/PA15, 20 PB3/PB4/PB5/PB6

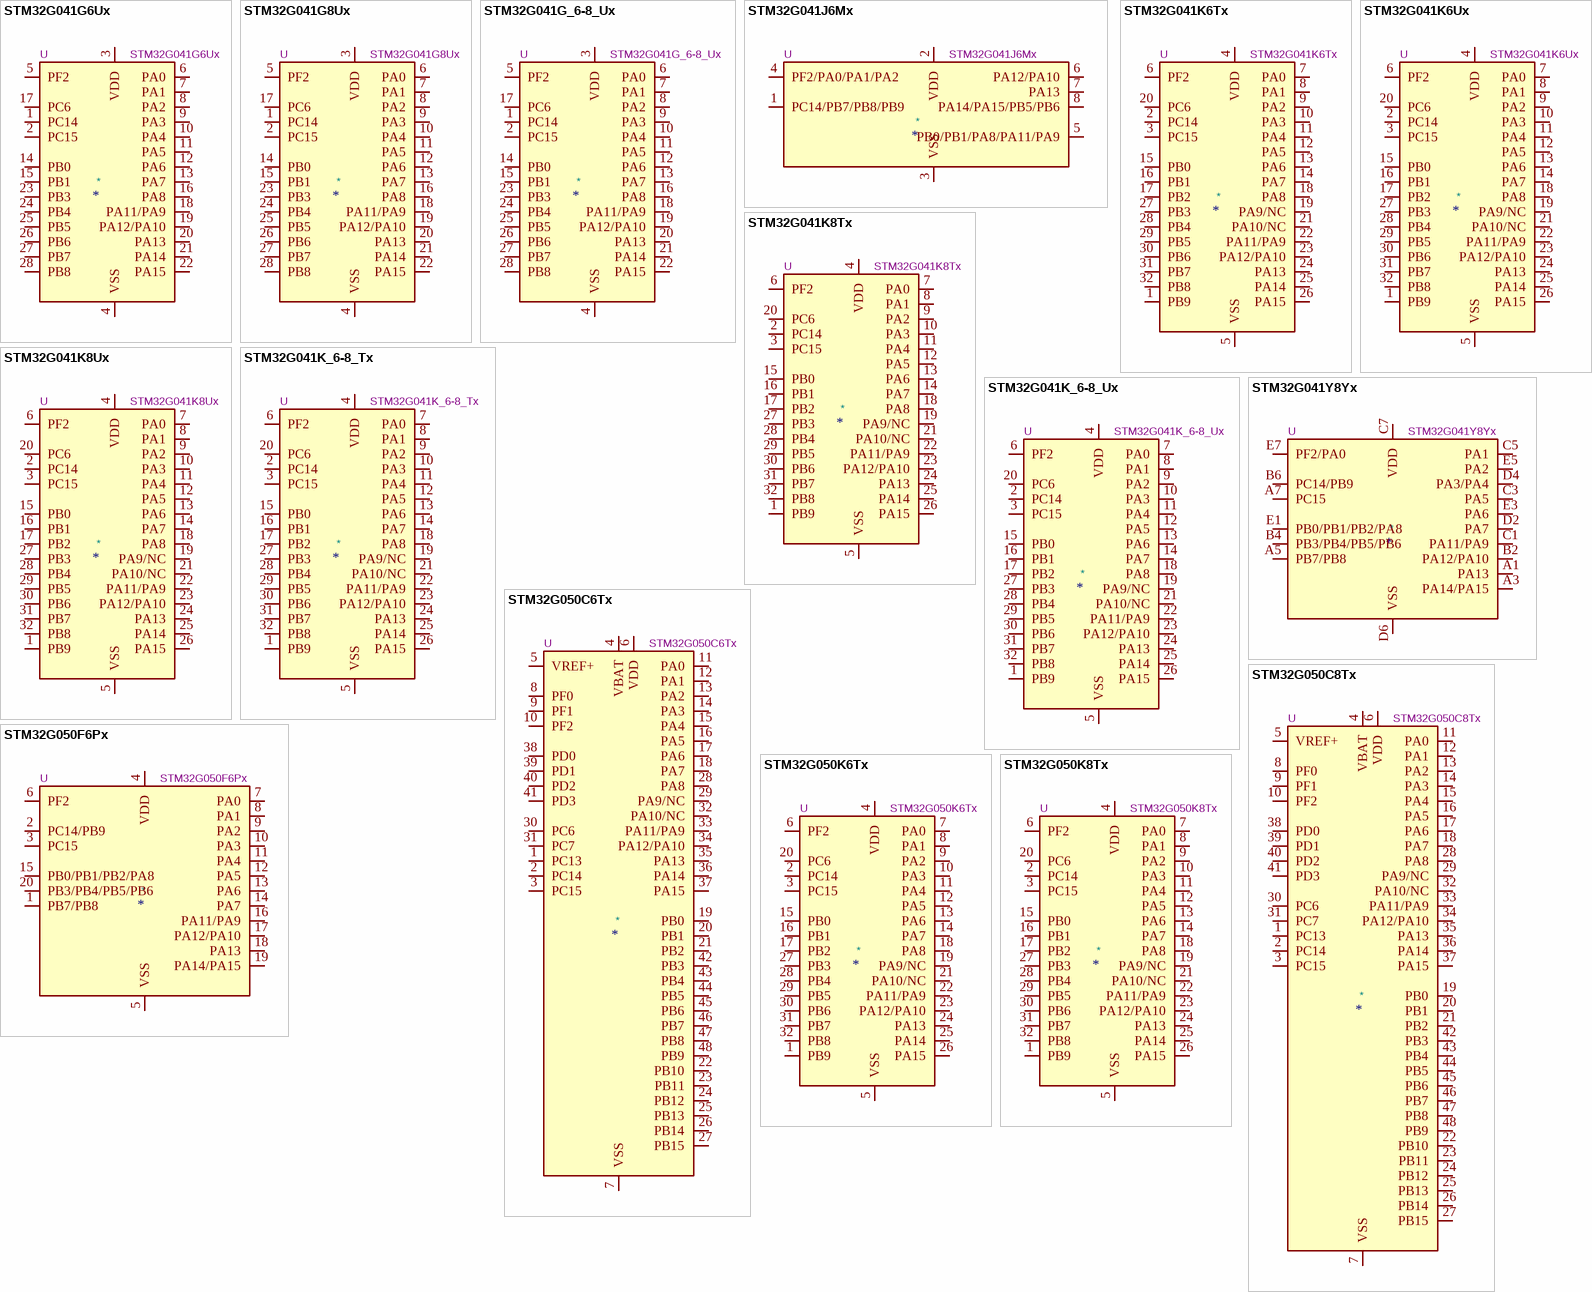
[diagram p13: symbols STM32G041G6Ux to STM32G050K8Tx]

## STM32G041G6Ux
designator *  value STM32G041G6Ux  Reference: U
ki_keywords: Arm Cortex-M0+ STM32G0 STM32G0x1; ki_description: STMicroelectronics Arm Cortex-M0+ MCU, 32KB flash, 8KB RAM, 64 MHz, 1.7-3.6V, 26 GPIO, UFQFPN28; ki_fp_filters: QFN*4x4mm*P0.5mm*; Footprint: Package_DFN_QFN:QFN-28_4x4mm_P0.5mm; Datasheet: https://www.st.com/resource/en/datasheet/stm32g041g6.pdf
pins: 1 PC14, 2 PC15, 3 VDD, 4 VSS, 5 PF2, 6 PA0, 7 PA1, 8 PA2, 9 PA3, 10 PA4, 11 PA5, 12 PA6, 13 PA7, 14 PB0, 15 PB1, 16 PA8, 17 PC6, 18 PA11/PA9, 19 PA12/PA10, 20 PA13, 21 PA14, 22 PA15, 23 PB3, 24 PB4, 25 PB5, 26 PB6, 27 PB7, 28 PB8

## STM32G041G8Ux
designator *  value STM32G041G8Ux  Reference: U
ki_keywords: Arm Cortex-M0+ STM32G0 STM32G0x1; ki_description: STMicroelectronics Arm Cortex-M0+ MCU, 64KB flash, 8KB RAM, 64 MHz, 1.7-3.6V, 26 GPIO, UFQFPN28; ki_fp_filters: QFN*4x4mm*P0.5mm*; Footprint: Package_DFN_QFN:QFN-28_4x4mm_P0.5mm; Datasheet: https://www.st.com/resource/en/datasheet/stm32g041g8.pdf
pins: 1 PC14, 2 PC15, 3 VDD, 4 VSS, 5 PF2, 6 PA0, 7 PA1, 8 PA2, 9 PA3, 10 PA4, 11 PA5, 12 PA6, 13 PA7, 14 PB0, 15 PB1, 16 PA8, 17 PC6, 18 PA11/PA9, 19 PA12/PA10, 20 PA13, 21 PA14, 22 PA15, 23 PB3, 24 PB4, 25 PB5, 26 PB6, 27 PB7, 28 PB8

## STM32G041G_6-8_Ux
designator *  value STM32G041G_6-8_Ux  Reference: U
ki_keywords: Arm Cortex-M0+ STM32G0 STM32G0x1; ki_description: STMicroelectronics Arm Cortex-M0+ MCU, 32-64KB flash, 8KB RAM, 64 MHz, 1.7-3.6V, 26 GPIO, UFQFPN28; ki_fp_filters: QFN*4x4mm*P0.5mm*; Footprint: Package_DFN_QFN:QFN-28_4x4mm_P0.5mm; Datasheet: https://www.st.com/resource/en/datasheet/stm32g041g6.pdf
pins: 1 PC14, 2 PC15, 3 VDD, 4 VSS, 5 PF2, 6 PA0, 7 PA1, 8 PA2, 9 PA3, 10 PA4, 11 PA5, 12 PA6, 13 PA7, 14 PB0, 15 PB1, 16 PA8, 17 PC6, 18 PA11/PA9, 19 PA12/PA10, 20 PA13, 21 PA14, 22 PA15, 23 PB3, 24 PB4, 25 PB5, 26 PB6, 27 PB7, 28 PB8

## STM32G041J6Mx
designator *  value STM32G041J6Mx  Reference: U
ki_keywords: Arm Cortex-M0+ STM32G0 STM32G0x1; ki_description: STMicroelectronics Arm Cortex-M0+ MCU, 32KB flash, 8KB RAM, 64 MHz, 1.7-3.6V, 6 GPIO, SO8N; ki_fp_filters: SO*3.9x4.9mm*P1.27mm*; Footprint: Package_SO:SOIC-8_3.9x4.9mm_P1.27mm; Datasheet: https://www.st.com/resource/en/datasheet/stm32g041j6.pdf
pins: 1 PC14/PB7/PB8/PB9, 2 VDD, 3 VSS, 4 PF2/PA0/PA1/PA2, 5 PB0/PB1/PA8/PA11/PA9, 6 PA12/PA10, 7 PA13, 8 PA14/PA15/PB5/PB6

## STM32G041K6Tx
designator *  value STM32G041K6Tx  Reference: U
ki_keywords: Arm Cortex-M0+ STM32G0 STM32G0x1; ki_description: STMicroelectronics Arm Cortex-M0+ MCU, 32KB flash, 8KB RAM, 64 MHz, 1.7-3.6V, 30 GPIO, LQFP32; ki_fp_filters: LQFP*7x7mm*P0.8mm*; Footprint: Package_QFP:LQFP-32_7x7mm_P0.8mm; Datasheet: https://www.st.com/resource/en/datasheet/stm32g041k6.pdf
pins: 1 PB9, 2 PC14, 3 PC15, 4 VDD, 5 VSS, 6 PF2, 7 PA0, 8 PA1, 9 PA2, 10 PA3, 11 PA4, 12 PA5, 13 PA6, 14 PA7, 15 PB0, 16 PB1, 17 PB2, 18 PA8, 19 PA9/NC, 20 PC6, 21 PA10/NC, 22 PA11/PA9, 23 PA12/PA10, 24 PA13, 25 PA14, 26 PA15, 27 PB3, 28 PB4, 29 PB5, 30 PB6, 31 PB7, 32 PB8

## STM32G041K6Ux
designator *  value STM32G041K6Ux  Reference: U
ki_keywords: Arm Cortex-M0+ STM32G0 STM32G0x1; ki_description: STMicroelectronics Arm Cortex-M0+ MCU, 32KB flash, 8KB RAM, 64 MHz, 1.7-3.6V, 30 GPIO, UFQFPN32; ki_fp_filters: QFN*1EP*5x5mm*P0.5mm*; Footprint: Package_DFN_QFN:QFN-32-1EP_5x5mm_P0.5mm_EP3.45x3.45mm; Datasheet: https://www.st.com/resource/en/datasheet/stm32g041k6.pdf
pins: 1 PB9, 2 PC14, 3 PC15, 4 VDD, 5 VSS, 6 PF2, 7 PA0, 8 PA1, 9 PA2, 10 PA3, 11 PA4, 12 PA5, 13 PA6, 14 PA7, 15 PB0, 16 PB1, 17 PB2, 18 PA8, 19 PA9/NC, 20 PC6, 21 PA10/NC, 22 PA11/PA9, 23 PA12/PA10, 24 PA13, 25 PA14, 26 PA15, 27 PB3, 28 PB4, 29 PB5, 30 PB6, 31 PB7, 32 PB8, 33 VSS hidden

## STM32G041K8Tx
designator *  value STM32G041K8Tx  Reference: U
ki_keywords: Arm Cortex-M0+ STM32G0 STM32G0x1; ki_description: STMicroelectronics Arm Cortex-M0+ MCU, 64KB flash, 8KB RAM, 64 MHz, 1.7-3.6V, 30 GPIO, LQFP32; ki_fp_filters: LQFP*7x7mm*P0.8mm*; Footprint: Package_QFP:LQFP-32_7x7mm_P0.8mm; Datasheet: https://www.st.com/resource/en/datasheet/stm32g041k8.pdf
pins: 1 PB9, 2 PC14, 3 PC15, 4 VDD, 5 VSS, 6 PF2, 7 PA0, 8 PA1, 9 PA2, 10 PA3, 11 PA4, 12 PA5, 13 PA6, 14 PA7, 15 PB0, 16 PB1, 17 PB2, 18 PA8, 19 PA9/NC, 20 PC6, 21 PA10/NC, 22 PA11/PA9, 23 PA12/PA10, 24 PA13, 25 PA14, 26 PA15, 27 PB3, 28 PB4, 29 PB5, 30 PB6, 31 PB7, 32 PB8

## STM32G041K8Ux
designator *  value STM32G041K8Ux  Reference: U
ki_keywords: Arm Cortex-M0+ STM32G0 STM32G0x1; ki_description: STMicroelectronics Arm Cortex-M0+ MCU, 64KB flash, 8KB RAM, 64 MHz, 1.7-3.6V, 30 GPIO, UFQFPN32; ki_fp_filters: QFN*1EP*5x5mm*P0.5mm*; Footprint: Package_DFN_QFN:QFN-32-1EP_5x5mm_P0.5mm_EP3.45x3.45mm; Datasheet: https://www.st.com/resource/en/datasheet/stm32g041k8.pdf
pins: 1 PB9, 2 PC14, 3 PC15, 4 VDD, 5 VSS, 6 PF2, 7 PA0, 8 PA1, 9 PA2, 10 PA3, 11 PA4, 12 PA5, 13 PA6, 14 PA7, 15 PB0, 16 PB1, 17 PB2, 18 PA8, 19 PA9/NC, 20 PC6, 21 PA10/NC, 22 PA11/PA9, 23 PA12/PA10, 24 PA13, 25 PA14, 26 PA15, 27 PB3, 28 PB4, 29 PB5, 30 PB6, 31 PB7, 32 PB8, 33 VSS hidden

## STM32G041K_6-8_Tx
designator *  value STM32G041K_6-8_Tx  Reference: U
ki_keywords: Arm Cortex-M0+ STM32G0 STM32G0x1; ki_description: STMicroelectronics Arm Cortex-M0+ MCU, 32-64KB flash, 8KB RAM, 64 MHz, 1.7-3.6V, 30 GPIO, LQFP32; ki_fp_filters: LQFP*7x7mm*P0.8mm*; Footprint: Package_QFP:LQFP-32_7x7mm_P0.8mm; Datasheet: https://www.st.com/resource/en/datasheet/stm32g041k6.pdf
pins: 1 PB9, 2 PC14, 3 PC15, 4 VDD, 5 VSS, 6 PF2, 7 PA0, 8 PA1, 9 PA2, 10 PA3, 11 PA4, 12 PA5, 13 PA6, 14 PA7, 15 PB0, 16 PB1, 17 PB2, 18 PA8, 19 PA9/NC, 20 PC6, 21 PA10/NC, 22 PA11/PA9, 23 PA12/PA10, 24 PA13, 25 PA14, 26 PA15, 27 PB3, 28 PB4, 29 PB5, 30 PB6, 31 PB7, 32 PB8

## STM32G041K_6-8_Ux
designator *  value STM32G041K_6-8_Ux  Reference: U
ki_keywords: Arm Cortex-M0+ STM32G0 STM32G0x1; ki_description: STMicroelectronics Arm Cortex-M0+ MCU, 32-64KB flash, 8KB RAM, 64 MHz, 1.7-3.6V, 30 GPIO, UFQFPN32; ki_fp_filters: QFN*1EP*5x5mm*P0.5mm*; Footprint: Package_DFN_QFN:QFN-32-1EP_5x5mm_P0.5mm_EP3.45x3.45mm; Datasheet: https://www.st.com/resource/en/datasheet/stm32g041k6.pdf
pins: 1 PB9, 2 PC14, 3 PC15, 4 VDD, 5 VSS, 6 PF2, 7 PA0, 8 PA1, 9 PA2, 10 PA3, 11 PA4, 12 PA5, 13 PA6, 14 PA7, 15 PB0, 16 PB1, 17 PB2, 18 PA8, 19 PA9/NC, 20 PC6, 21 PA10/NC, 22 PA11/PA9, 23 PA12/PA10, 24 PA13, 25 PA14, 26 PA15, 27 PB3, 28 PB4, 29 PB5, 30 PB6, 31 PB7, 32 PB8, 33 VSS hidden

## STM32G041Y8Yx
designator *  value STM32G041Y8Yx  Reference: U
ki_keywords: Arm Cortex-M0+ STM32G0 STM32G0x1; ki_description: STMicroelectronics Arm Cortex-M0+ MCU, 64KB flash, 8KB RAM, 64 MHz, 1.7-3.6V, 16 GPIO, WLCSP18; Footprint: Package_CSP:ST_WLCSP-18_1.86x2.14mm_P0.4mm_Stagger; Datasheet: https://www.st.com/resource/en/datasheet/stm32g041y8.pdf; ki_fp_filters: *
pins: A1 PA13, A3 PA14/PA15, A5 PB7/PB8, A7 PC15, B2 PA12/PA10, B4 PB3/PB4/PB5/PB6, B6 PC14/PB9, C1 PA11/PA9, C3 PA5, C5 PA1, C7 VDD, D2 PA7, D4 PA3/PA4, D6 VSS, E1 PB0/PB1/PB2/PA8, E3 PA6, E5 PA2, E7 PF2/PA0

## STM32G050C6Tx
designator *  value STM32G050C6Tx  Reference: U
ki_keywords: Arm Cortex-M0+ STM32G0 STM32G0x0 Value line; ki_description: STMicroelectronics Arm Cortex-M0+ MCU, 32KB flash, 18KB RAM, 64 MHz, 2.0-3.6V, 44 GPIO, LQFP48; ki_fp_filters: LQFP*7x7mm*P0.5mm*; Footprint: Package_QFP:LQFP-48_7x7mm_P0.5mm; Datasheet: https://www.st.com/resource/en/datasheet/stm32g050c6.pdf
pins: 1 PC13, 2 PC14, 3 PC15, 4 VBAT, 5 VREF+, 6 VDD, 7 VSS, 8 PF0, 9 PF1, 10 PF2, 11 PA0, 12 PA1, 13 PA2, 14 PA3, 15 PA4, 16 PA5, 17 PA6, 18 PA7, 19 PB0, 20 PB1, 21 PB2, 22 PB10, 23 PB11, 24 PB12, 25 PB13, 26 PB14, 27 PB15, 28 PA8, 29 PA9/NC, 30 PC6, 31 PC7, 32 PA10/NC, 33 PA11/PA9, 34 PA12/PA10, 35 PA13, 36 PA14, 37 PA15, 38 PD0, 39 PD1, 40 PD2, 41 PD3, 42 PB3, 43 PB4, 44 PB5, 45 PB6, 46 PB7, 47 PB8, 48 PB9

## STM32G050C8Tx
designator *  value STM32G050C8Tx  Reference: U
ki_keywords: Arm Cortex-M0+ STM32G0 STM32G0x0 Value line; ki_description: STMicroelectronics Arm Cortex-M0+ MCU, 64KB flash, 18KB RAM, 64 MHz, 2.0-3.6V, 44 GPIO, LQFP48; ki_fp_filters: LQFP*7x7mm*P0.5mm*; Footprint: Package_QFP:LQFP-48_7x7mm_P0.5mm; Datasheet: https://www.st.com/resource/en/datasheet/stm32g050c8.pdf
pins: 1 PC13, 2 PC14, 3 PC15, 4 VBAT, 5 VREF+, 6 VDD, 7 VSS, 8 PF0, 9 PF1, 10 PF2, 11 PA0, 12 PA1, 13 PA2, 14 PA3, 15 PA4, 16 PA5, 17 PA6, 18 PA7, 19 PB0, 20 PB1, 21 PB2, 22 PB10, 23 PB11, 24 PB12, 25 PB13, 26 PB14, 27 PB15, 28 PA8, 29 PA9/NC, 30 PC6, 31 PC7, 32 PA10/NC, 33 PA11/PA9, 34 PA12/PA10, 35 PA13, 36 PA14, 37 PA15, 38 PD0, 39 PD1, 40 PD2, 41 PD3, 42 PB3, 43 PB4, 44 PB5, 45 PB6, 46 PB7, 47 PB8, 48 PB9

## STM32G050F6Px
designator *  value STM32G050F6Px  Reference: U
ki_keywords: Arm Cortex-M0+ STM32G0 STM32G0x0 Value line; ki_description: STMicroelectronics Arm Cortex-M0+ MCU, 32KB flash, 18KB RAM, 64 MHz, 2.0-3.6V, 18 GPIO, TSSOP20; ki_fp_filters: TSSOP*4.4x6.5mm*P0.65mm*; Footprint: Package_SO:TSSOP-20_4.4x6.5mm_P0.65mm; Datasheet: https://www.st.com/resource/en/datasheet/stm32g050f6.pdf
pins: 1 PB7/PB8, 2 PC14/PB9, 3 PC15, 4 VDD, 5 VSS, 6 PF2, 7 PA0, 8 PA1, 9 PA2, 10 PA3, 11 PA4, 12 PA5, 13 PA6, 14 PA7, 15 PB0/PB1/PB2/PA8, 16 PA11/PA9, 17 PA12/PA10, 18 PA13, 19 PA14/PA15, 20 PB3/PB4/PB5/PB6

## STM32G050K6Tx
designator *  value STM32G050K6Tx  Reference: U
ki_keywords: Arm Cortex-M0+ STM32G0 STM32G0x0 Value line; ki_description: STMicroelectronics Arm Cortex-M0+ MCU, 32KB flash, 18KB RAM, 64 MHz, 2.0-3.6V, 30 GPIO, LQFP32; ki_fp_filters: LQFP*7x7mm*P0.8mm*; Footprint: Package_QFP:LQFP-32_7x7mm_P0.8mm; Datasheet: https://www.st.com/resource/en/datasheet/stm32g050k6.pdf
pins: 1 PB9, 2 PC14, 3 PC15, 4 VDD, 5 VSS, 6 PF2, 7 PA0, 8 PA1, 9 PA2, 10 PA3, 11 PA4, 12 PA5, 13 PA6, 14 PA7, 15 PB0, 16 PB1, 17 PB2, 18 PA8, 19 PA9/NC, 20 PC6, 21 PA10/NC, 22 PA11/PA9, 23 PA12/PA10, 24 PA13, 25 PA14, 26 PA15, 27 PB3, 28 PB4, 29 PB5, 30 PB6, 31 PB7, 32 PB8

## STM32G050K8Tx
designator *  value STM32G050K8Tx  Reference: U
ki_keywords: Arm Cortex-M0+ STM32G0 STM32G0x0 Value line; ki_description: STMicroelectronics Arm Cortex-M0+ MCU, 64KB flash, 18KB RAM, 64 MHz, 2.0-3.6V, 30 GPIO, LQFP32; ki_fp_filters: LQFP*7x7mm*P0.8mm*; Footprint: Package_QFP:LQFP-32_7x7mm_P0.8mm; Datasheet: https://www.st.com/resource/en/datasheet/stm32g050k8.pdf
pins: 1 PB9, 2 PC14, 3 PC15, 4 VDD, 5 VSS, 6 PF2, 7 PA0, 8 PA1, 9 PA2, 10 PA3, 11 PA4, 12 PA5, 13 PA6, 14 PA7, 15 PB0, 16 PB1, 17 PB2, 18 PA8, 19 PA9/NC, 20 PC6, 21 PA10/NC, 22 PA11/PA9, 23 PA12/PA10, 24 PA13, 25 PA14, 26 PA15, 27 PB3, 28 PB4, 29 PB5, 30 PB6, 31 PB7, 32 PB8

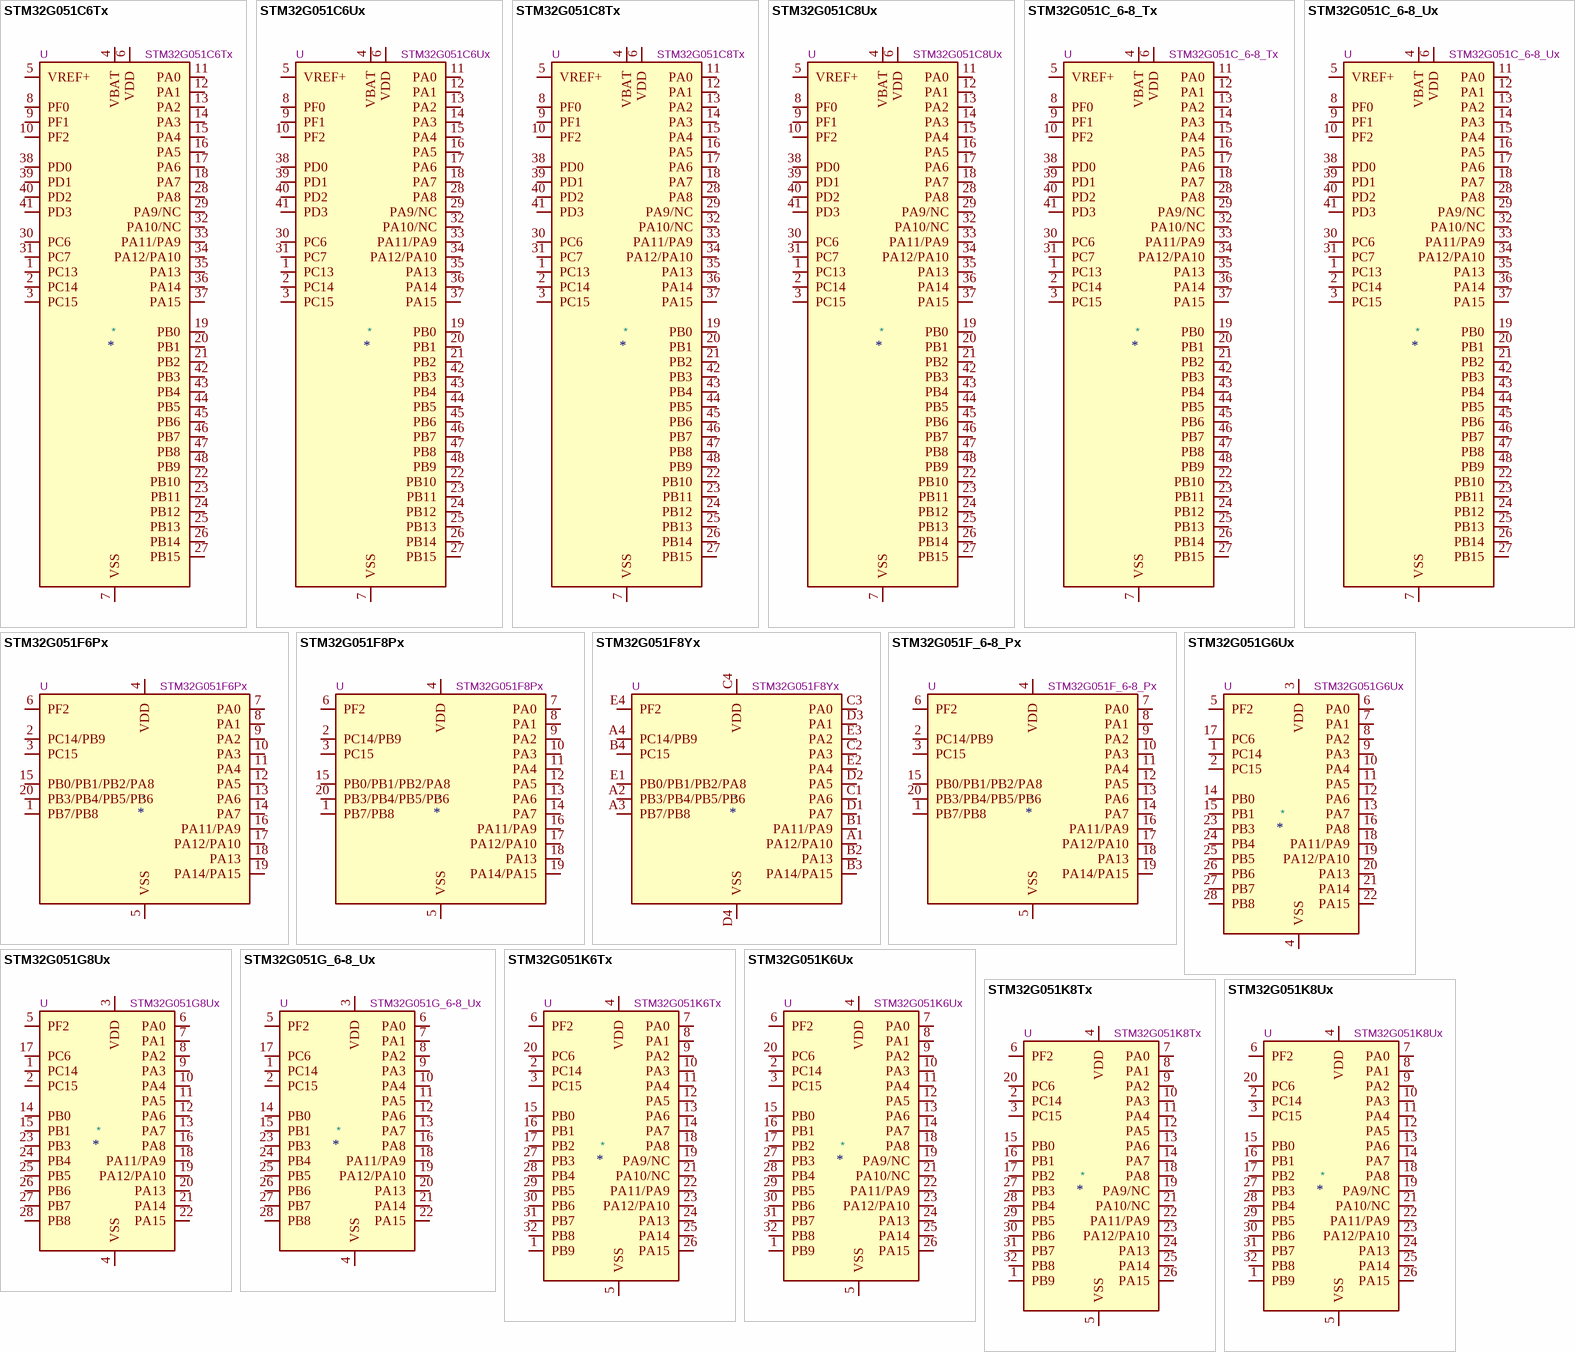
[diagram p14: symbols STM32G051C6Tx to STM32G051K8Ux]

## STM32G051C6Tx
designator *  value STM32G051C6Tx  Reference: U
ki_keywords: Arm Cortex-M0+ STM32G0 STM32G0x1; ki_description: STMicroelectronics Arm Cortex-M0+ MCU, 32KB flash, 18KB RAM, 64 MHz, 1.7-3.6V, 44 GPIO, LQFP48; ki_fp_filters: LQFP*7x7mm*P0.5mm*; Footprint: Package_QFP:LQFP-48_7x7mm_P0.5mm; Datasheet: https://www.st.com/resource/en/datasheet/stm32g051c6.pdf
pins: 1 PC13, 2 PC14, 3 PC15, 4 VBAT, 5 VREF+, 6 VDD, 7 VSS, 8 PF0, 9 PF1, 10 PF2, 11 PA0, 12 PA1, 13 PA2, 14 PA3, 15 PA4, 16 PA5, 17 PA6, 18 PA7, 19 PB0, 20 PB1, 21 PB2, 22 PB10, 23 PB11, 24 PB12, 25 PB13, 26 PB14, 27 PB15, 28 PA8, 29 PA9/NC, 30 PC6, 31 PC7, 32 PA10/NC, 33 PA11/PA9, 34 PA12/PA10, 35 PA13, 36 PA14, 37 PA15, 38 PD0, 39 PD1, 40 PD2, 41 PD3, 42 PB3, 43 PB4, 44 PB5, 45 PB6, 46 PB7, 47 PB8, 48 PB9

## STM32G051C6Ux
designator *  value STM32G051C6Ux  Reference: U
ki_keywords: Arm Cortex-M0+ STM32G0 STM32G0x1; ki_description: STMicroelectronics Arm Cortex-M0+ MCU, 32KB flash, 18KB RAM, 64 MHz, 1.7-3.6V, 44 GPIO, UFQFPN48; ki_fp_filters: QFN*1EP*7x7mm*P0.5mm*; Footprint: Package_DFN_QFN:QFN-48-1EP_7x7mm_P0.5mm_EP5.6x5.6mm; Datasheet: https://www.st.com/resource/en/datasheet/stm32g051c6.pdf
pins: 1 PC13, 2 PC14, 3 PC15, 4 VBAT, 5 VREF+, 6 VDD, 7 VSS, 8 PF0, 9 PF1, 10 PF2, 11 PA0, 12 PA1, 13 PA2, 14 PA3, 15 PA4, 16 PA5, 17 PA6, 18 PA7, 19 PB0, 20 PB1, 21 PB2, 22 PB10, 23 PB11, 24 PB12, 25 PB13, 26 PB14, 27 PB15, 28 PA8, 29 PA9/NC, 30 PC6, 31 PC7, 32 PA10/NC, 33 PA11/PA9, 34 PA12/PA10, 35 PA13, 36 PA14, 37 PA15, 38 PD0, 39 PD1, 40 PD2, 41 PD3, 42 PB3, 43 PB4, 44 PB5, 45 PB6, 46 PB7, 47 PB8, 48 PB9, 49 VSS hidden

## STM32G051C8Tx
designator *  value STM32G051C8Tx  Reference: U
ki_keywords: Arm Cortex-M0+ STM32G0 STM32G0x1; ki_description: STMicroelectronics Arm Cortex-M0+ MCU, 64KB flash, 18KB RAM, 64 MHz, 1.7-3.6V, 44 GPIO, LQFP48; ki_fp_filters: LQFP*7x7mm*P0.5mm*; Footprint: Package_QFP:LQFP-48_7x7mm_P0.5mm; Datasheet: https://www.st.com/resource/en/datasheet/stm32g051c8.pdf
pins: 1 PC13, 2 PC14, 3 PC15, 4 VBAT, 5 VREF+, 6 VDD, 7 VSS, 8 PF0, 9 PF1, 10 PF2, 11 PA0, 12 PA1, 13 PA2, 14 PA3, 15 PA4, 16 PA5, 17 PA6, 18 PA7, 19 PB0, 20 PB1, 21 PB2, 22 PB10, 23 PB11, 24 PB12, 25 PB13, 26 PB14, 27 PB15, 28 PA8, 29 PA9/NC, 30 PC6, 31 PC7, 32 PA10/NC, 33 PA11/PA9, 34 PA12/PA10, 35 PA13, 36 PA14, 37 PA15, 38 PD0, 39 PD1, 40 PD2, 41 PD3, 42 PB3, 43 PB4, 44 PB5, 45 PB6, 46 PB7, 47 PB8, 48 PB9

## STM32G051C8Ux
designator *  value STM32G051C8Ux  Reference: U
ki_keywords: Arm Cortex-M0+ STM32G0 STM32G0x1; ki_description: STMicroelectronics Arm Cortex-M0+ MCU, 64KB flash, 18KB RAM, 64 MHz, 1.7-3.6V, 44 GPIO, UFQFPN48; ki_fp_filters: QFN*1EP*7x7mm*P0.5mm*; Footprint: Package_DFN_QFN:QFN-48-1EP_7x7mm_P0.5mm_EP5.6x5.6mm; Datasheet: https://www.st.com/resource/en/datasheet/stm32g051c8.pdf
pins: 1 PC13, 2 PC14, 3 PC15, 4 VBAT, 5 VREF+, 6 VDD, 7 VSS, 8 PF0, 9 PF1, 10 PF2, 11 PA0, 12 PA1, 13 PA2, 14 PA3, 15 PA4, 16 PA5, 17 PA6, 18 PA7, 19 PB0, 20 PB1, 21 PB2, 22 PB10, 23 PB11, 24 PB12, 25 PB13, 26 PB14, 27 PB15, 28 PA8, 29 PA9/NC, 30 PC6, 31 PC7, 32 PA10/NC, 33 PA11/PA9, 34 PA12/PA10, 35 PA13, 36 PA14, 37 PA15, 38 PD0, 39 PD1, 40 PD2, 41 PD3, 42 PB3, 43 PB4, 44 PB5, 45 PB6, 46 PB7, 47 PB8, 48 PB9, 49 VSS hidden

## STM32G051C_6-8_Tx
designator *  value STM32G051C_6-8_Tx  Reference: U
ki_keywords: Arm Cortex-M0+ STM32G0 STM32G0x1; ki_description: STMicroelectronics Arm Cortex-M0+ MCU, 32-64KB flash, 18KB RAM, 64 MHz, 1.7-3.6V, 44 GPIO, LQFP48; ki_fp_filters: LQFP*7x7mm*P0.5mm*; Footprint: Package_QFP:LQFP-48_7x7mm_P0.5mm; Datasheet: https://www.st.com/resource/en/datasheet/stm32g051c6.pdf
pins: 1 PC13, 2 PC14, 3 PC15, 4 VBAT, 5 VREF+, 6 VDD, 7 VSS, 8 PF0, 9 PF1, 10 PF2, 11 PA0, 12 PA1, 13 PA2, 14 PA3, 15 PA4, 16 PA5, 17 PA6, 18 PA7, 19 PB0, 20 PB1, 21 PB2, 22 PB10, 23 PB11, 24 PB12, 25 PB13, 26 PB14, 27 PB15, 28 PA8, 29 PA9/NC, 30 PC6, 31 PC7, 32 PA10/NC, 33 PA11/PA9, 34 PA12/PA10, 35 PA13, 36 PA14, 37 PA15, 38 PD0, 39 PD1, 40 PD2, 41 PD3, 42 PB3, 43 PB4, 44 PB5, 45 PB6, 46 PB7, 47 PB8, 48 PB9

## STM32G051C_6-8_Ux
designator *  value STM32G051C_6-8_Ux  Reference: U
ki_keywords: Arm Cortex-M0+ STM32G0 STM32G0x1; ki_description: STMicroelectronics Arm Cortex-M0+ MCU, 32-64KB flash, 18KB RAM, 64 MHz, 1.7-3.6V, 44 GPIO, UFQFPN48; ki_fp_filters: QFN*1EP*7x7mm*P0.5mm*; Footprint: Package_DFN_QFN:QFN-48-1EP_7x7mm_P0.5mm_EP5.6x5.6mm; Datasheet: https://www.st.com/resource/en/datasheet/stm32g051c6.pdf
pins: 1 PC13, 2 PC14, 3 PC15, 4 VBAT, 5 VREF+, 6 VDD, 7 VSS, 8 PF0, 9 PF1, 10 PF2, 11 PA0, 12 PA1, 13 PA2, 14 PA3, 15 PA4, 16 PA5, 17 PA6, 18 PA7, 19 PB0, 20 PB1, 21 PB2, 22 PB10, 23 PB11, 24 PB12, 25 PB13, 26 PB14, 27 PB15, 28 PA8, 29 PA9/NC, 30 PC6, 31 PC7, 32 PA10/NC, 33 PA11/PA9, 34 PA12/PA10, 35 PA13, 36 PA14, 37 PA15, 38 PD0, 39 PD1, 40 PD2, 41 PD3, 42 PB3, 43 PB4, 44 PB5, 45 PB6, 46 PB7, 47 PB8, 48 PB9, 49 VSS hidden

## STM32G051F6Px
designator *  value STM32G051F6Px  Reference: U
ki_keywords: Arm Cortex-M0+ STM32G0 STM32G0x1; ki_description: STMicroelectronics Arm Cortex-M0+ MCU, 32KB flash, 18KB RAM, 64 MHz, 1.7-3.6V, 18 GPIO, TSSOP20; ki_fp_filters: TSSOP*4.4x6.5mm*P0.65mm*; Footprint: Package_SO:TSSOP-20_4.4x6.5mm_P0.65mm; Datasheet: https://www.st.com/resource/en/datasheet/stm32g051f6.pdf
pins: 1 PB7/PB8, 2 PC14/PB9, 3 PC15, 4 VDD, 5 VSS, 6 PF2, 7 PA0, 8 PA1, 9 PA2, 10 PA3, 11 PA4, 12 PA5, 13 PA6, 14 PA7, 15 PB0/PB1/PB2/PA8, 16 PA11/PA9, 17 PA12/PA10, 18 PA13, 19 PA14/PA15, 20 PB3/PB4/PB5/PB6

## STM32G051F8Px
designator *  value STM32G051F8Px  Reference: U
ki_keywords: Arm Cortex-M0+ STM32G0 STM32G0x1; ki_description: STMicroelectronics Arm Cortex-M0+ MCU, 64KB flash, 18KB RAM, 64 MHz, 1.7-3.6V, 18 GPIO, TSSOP20; ki_fp_filters: TSSOP*4.4x6.5mm*P0.65mm*; Footprint: Package_SO:TSSOP-20_4.4x6.5mm_P0.65mm; Datasheet: https://www.st.com/resource/en/datasheet/stm32g051f8.pdf
pins: 1 PB7/PB8, 2 PC14/PB9, 3 PC15, 4 VDD, 5 VSS, 6 PF2, 7 PA0, 8 PA1, 9 PA2, 10 PA3, 11 PA4, 12 PA5, 13 PA6, 14 PA7, 15 PB0/PB1/PB2/PA8, 16 PA11/PA9, 17 PA12/PA10, 18 PA13, 19 PA14/PA15, 20 PB3/PB4/PB5/PB6

## STM32G051F8Yx
designator *  value STM32G051F8Yx  Reference: U
ki_keywords: Arm Cortex-M0+ STM32G0 STM32G0x1; ki_description: STMicroelectronics Arm Cortex-M0+ MCU, 64KB flash, 18KB RAM, 64 MHz, 1.7-3.6V, 18 GPIO, WLCSP20; Footprint: Package_CSP:ST_WLCSP-20_1.94x2.40mm_Layout4x5_P0.4mm; Datasheet: https://www.st.com/resource/en/datasheet/stm32g051f8.pdf; ki_fp_filters: *
pins: A1 PA12/PA10, A2 PB3/PB4/PB5/PB6, A3 PB7/PB8, A4 PC14/PB9, B1 PA11/PA9, B2 PA13, B3 PA14/PA15, B4 PC15, C1 PA6, C2 PA3, C3 PA0, C4 VDD, D1 PA7, D2 PA5, D3 PA1, D4 VSS, E1 PB0/PB1/PB2/PA8, E2 PA4, E3 PA2, E4 PF2

## STM32G051F_6-8_Px
designator *  value STM32G051F_6-8_Px  Reference: U
ki_keywords: Arm Cortex-M0+ STM32G0 STM32G0x1; ki_description: STMicroelectronics Arm Cortex-M0+ MCU, 32-64KB flash, 18KB RAM, 64 MHz, 1.7-3.6V, 18 GPIO, TSSOP20; ki_fp_filters: TSSOP*4.4x6.5mm*P0.65mm*; Footprint: Package_SO:TSSOP-20_4.4x6.5mm_P0.65mm; Datasheet: https://www.st.com/resource/en/datasheet/stm32g051f6.pdf
pins: 1 PB7/PB8, 2 PC14/PB9, 3 PC15, 4 VDD, 5 VSS, 6 PF2, 7 PA0, 8 PA1, 9 PA2, 10 PA3, 11 PA4, 12 PA5, 13 PA6, 14 PA7, 15 PB0/PB1/PB2/PA8, 16 PA11/PA9, 17 PA12/PA10, 18 PA13, 19 PA14/PA15, 20 PB3/PB4/PB5/PB6

## STM32G051G6Ux
designator *  value STM32G051G6Ux  Reference: U
ki_keywords: Arm Cortex-M0+ STM32G0 STM32G0x1; ki_description: STMicroelectronics Arm Cortex-M0+ MCU, 32KB flash, 18KB RAM, 64 MHz, 1.7-3.6V, 26 GPIO, UFQFPN28; ki_fp_filters: QFN*4x4mm*P0.5mm*; Footprint: Package_DFN_QFN:QFN-28_4x4mm_P0.5mm; Datasheet: https://www.st.com/resource/en/datasheet/stm32g051g6.pdf
pins: 1 PC14, 2 PC15, 3 VDD, 4 VSS, 5 PF2, 6 PA0, 7 PA1, 8 PA2, 9 PA3, 10 PA4, 11 PA5, 12 PA6, 13 PA7, 14 PB0, 15 PB1, 16 PA8, 17 PC6, 18 PA11/PA9, 19 PA12/PA10, 20 PA13, 21 PA14, 22 PA15, 23 PB3, 24 PB4, 25 PB5, 26 PB6, 27 PB7, 28 PB8

## STM32G051G8Ux
designator *  value STM32G051G8Ux  Reference: U
ki_keywords: Arm Cortex-M0+ STM32G0 STM32G0x1; ki_description: STMicroelectronics Arm Cortex-M0+ MCU, 64KB flash, 18KB RAM, 64 MHz, 1.7-3.6V, 26 GPIO, UFQFPN28; ki_fp_filters: QFN*4x4mm*P0.5mm*; Footprint: Package_DFN_QFN:QFN-28_4x4mm_P0.5mm; Datasheet: https://www.st.com/resource/en/datasheet/stm32g051g8.pdf
pins: 1 PC14, 2 PC15, 3 VDD, 4 VSS, 5 PF2, 6 PA0, 7 PA1, 8 PA2, 9 PA3, 10 PA4, 11 PA5, 12 PA6, 13 PA7, 14 PB0, 15 PB1, 16 PA8, 17 PC6, 18 PA11/PA9, 19 PA12/PA10, 20 PA13, 21 PA14, 22 PA15, 23 PB3, 24 PB4, 25 PB5, 26 PB6, 27 PB7, 28 PB8

## STM32G051G_6-8_Ux
designator *  value STM32G051G_6-8_Ux  Reference: U
ki_keywords: Arm Cortex-M0+ STM32G0 STM32G0x1; ki_description: STMicroelectronics Arm Cortex-M0+ MCU, 32-64KB flash, 18KB RAM, 64 MHz, 1.7-3.6V, 26 GPIO, UFQFPN28; ki_fp_filters: QFN*4x4mm*P0.5mm*; Footprint: Package_DFN_QFN:QFN-28_4x4mm_P0.5mm; Datasheet: https://www.st.com/resource/en/datasheet/stm32g051g6.pdf
pins: 1 PC14, 2 PC15, 3 VDD, 4 VSS, 5 PF2, 6 PA0, 7 PA1, 8 PA2, 9 PA3, 10 PA4, 11 PA5, 12 PA6, 13 PA7, 14 PB0, 15 PB1, 16 PA8, 17 PC6, 18 PA11/PA9, 19 PA12/PA10, 20 PA13, 21 PA14, 22 PA15, 23 PB3, 24 PB4, 25 PB5, 26 PB6, 27 PB7, 28 PB8

## STM32G051K6Tx
designator *  value STM32G051K6Tx  Reference: U
ki_keywords: Arm Cortex-M0+ STM32G0 STM32G0x1; ki_description: STMicroelectronics Arm Cortex-M0+ MCU, 32KB flash, 18KB RAM, 64 MHz, 1.7-3.6V, 30 GPIO, LQFP32; ki_fp_filters: LQFP*7x7mm*P0.8mm*; Footprint: Package_QFP:LQFP-32_7x7mm_P0.8mm; Datasheet: https://www.st.com/resource/en/datasheet/stm32g051k6.pdf
pins: 1 PB9, 2 PC14, 3 PC15, 4 VDD, 5 VSS, 6 PF2, 7 PA0, 8 PA1, 9 PA2, 10 PA3, 11 PA4, 12 PA5, 13 PA6, 14 PA7, 15 PB0, 16 PB1, 17 PB2, 18 PA8, 19 PA9/NC, 20 PC6, 21 PA10/NC, 22 PA11/PA9, 23 PA12/PA10, 24 PA13, 25 PA14, 26 PA15, 27 PB3, 28 PB4, 29 PB5, 30 PB6, 31 PB7, 32 PB8

## STM32G051K6Ux
designator *  value STM32G051K6Ux  Reference: U
ki_keywords: Arm Cortex-M0+ STM32G0 STM32G0x1; ki_description: STMicroelectronics Arm Cortex-M0+ MCU, 32KB flash, 18KB RAM, 64 MHz, 1.7-3.6V, 30 GPIO, UFQFPN32; ki_fp_filters: QFN*1EP*5x5mm*P0.5mm*; Footprint: Package_DFN_QFN:QFN-32-1EP_5x5mm_P0.5mm_EP3.45x3.45mm; Datasheet: https://www.st.com/resource/en/datasheet/stm32g051k6.pdf
pins: 1 PB9, 2 PC14, 3 PC15, 4 VDD, 5 VSS, 6 PF2, 7 PA0, 8 PA1, 9 PA2, 10 PA3, 11 PA4, 12 PA5, 13 PA6, 14 PA7, 15 PB0, 16 PB1, 17 PB2, 18 PA8, 19 PA9/NC, 20 PC6, 21 PA10/NC, 22 PA11/PA9, 23 PA12/PA10, 24 PA13, 25 PA14, 26 PA15, 27 PB3, 28 PB4, 29 PB5, 30 PB6, 31 PB7, 32 PB8, 33 VSS hidden

## STM32G051K8Tx
designator *  value STM32G051K8Tx  Reference: U
ki_keywords: Arm Cortex-M0+ STM32G0 STM32G0x1; ki_description: STMicroelectronics Arm Cortex-M0+ MCU, 64KB flash, 18KB RAM, 64 MHz, 1.7-3.6V, 30 GPIO, LQFP32; ki_fp_filters: LQFP*7x7mm*P0.8mm*; Footprint: Package_QFP:LQFP-32_7x7mm_P0.8mm; Datasheet: https://www.st.com/resource/en/datasheet/stm32g051k8.pdf
pins: 1 PB9, 2 PC14, 3 PC15, 4 VDD, 5 VSS, 6 PF2, 7 PA0, 8 PA1, 9 PA2, 10 PA3, 11 PA4, 12 PA5, 13 PA6, 14 PA7, 15 PB0, 16 PB1, 17 PB2, 18 PA8, 19 PA9/NC, 20 PC6, 21 PA10/NC, 22 PA11/PA9, 23 PA12/PA10, 24 PA13, 25 PA14, 26 PA15, 27 PB3, 28 PB4, 29 PB5, 30 PB6, 31 PB7, 32 PB8

## STM32G051K8Ux
designator *  value STM32G051K8Ux  Reference: U
ki_keywords: Arm Cortex-M0+ STM32G0 STM32G0x1; ki_description: STMicroelectronics Arm Cortex-M0+ MCU, 64KB flash, 18KB RAM, 64 MHz, 1.7-3.6V, 30 GPIO, UFQFPN32; ki_fp_filters: QFN*1EP*5x5mm*P0.5mm*; Footprint: Package_DFN_QFN:QFN-32-1EP_5x5mm_P0.5mm_EP3.45x3.45mm; Datasheet: https://www.st.com/resource/en/datasheet/stm32g051k8.pdf
pins: 1 PB9, 2 PC14, 3 PC15, 4 VDD, 5 VSS, 6 PF2, 7 PA0, 8 PA1, 9 PA2, 10 PA3, 11 PA4, 12 PA5, 13 PA6, 14 PA7, 15 PB0, 16 PB1, 17 PB2, 18 PA8, 19 PA9/NC, 20 PC6, 21 PA10/NC, 22 PA11/PA9, 23 PA12/PA10, 24 PA13, 25 PA14, 26 PA15, 27 PB3, 28 PB4, 29 PB5, 30 PB6, 31 PB7, 32 PB8, 33 VSS hidden

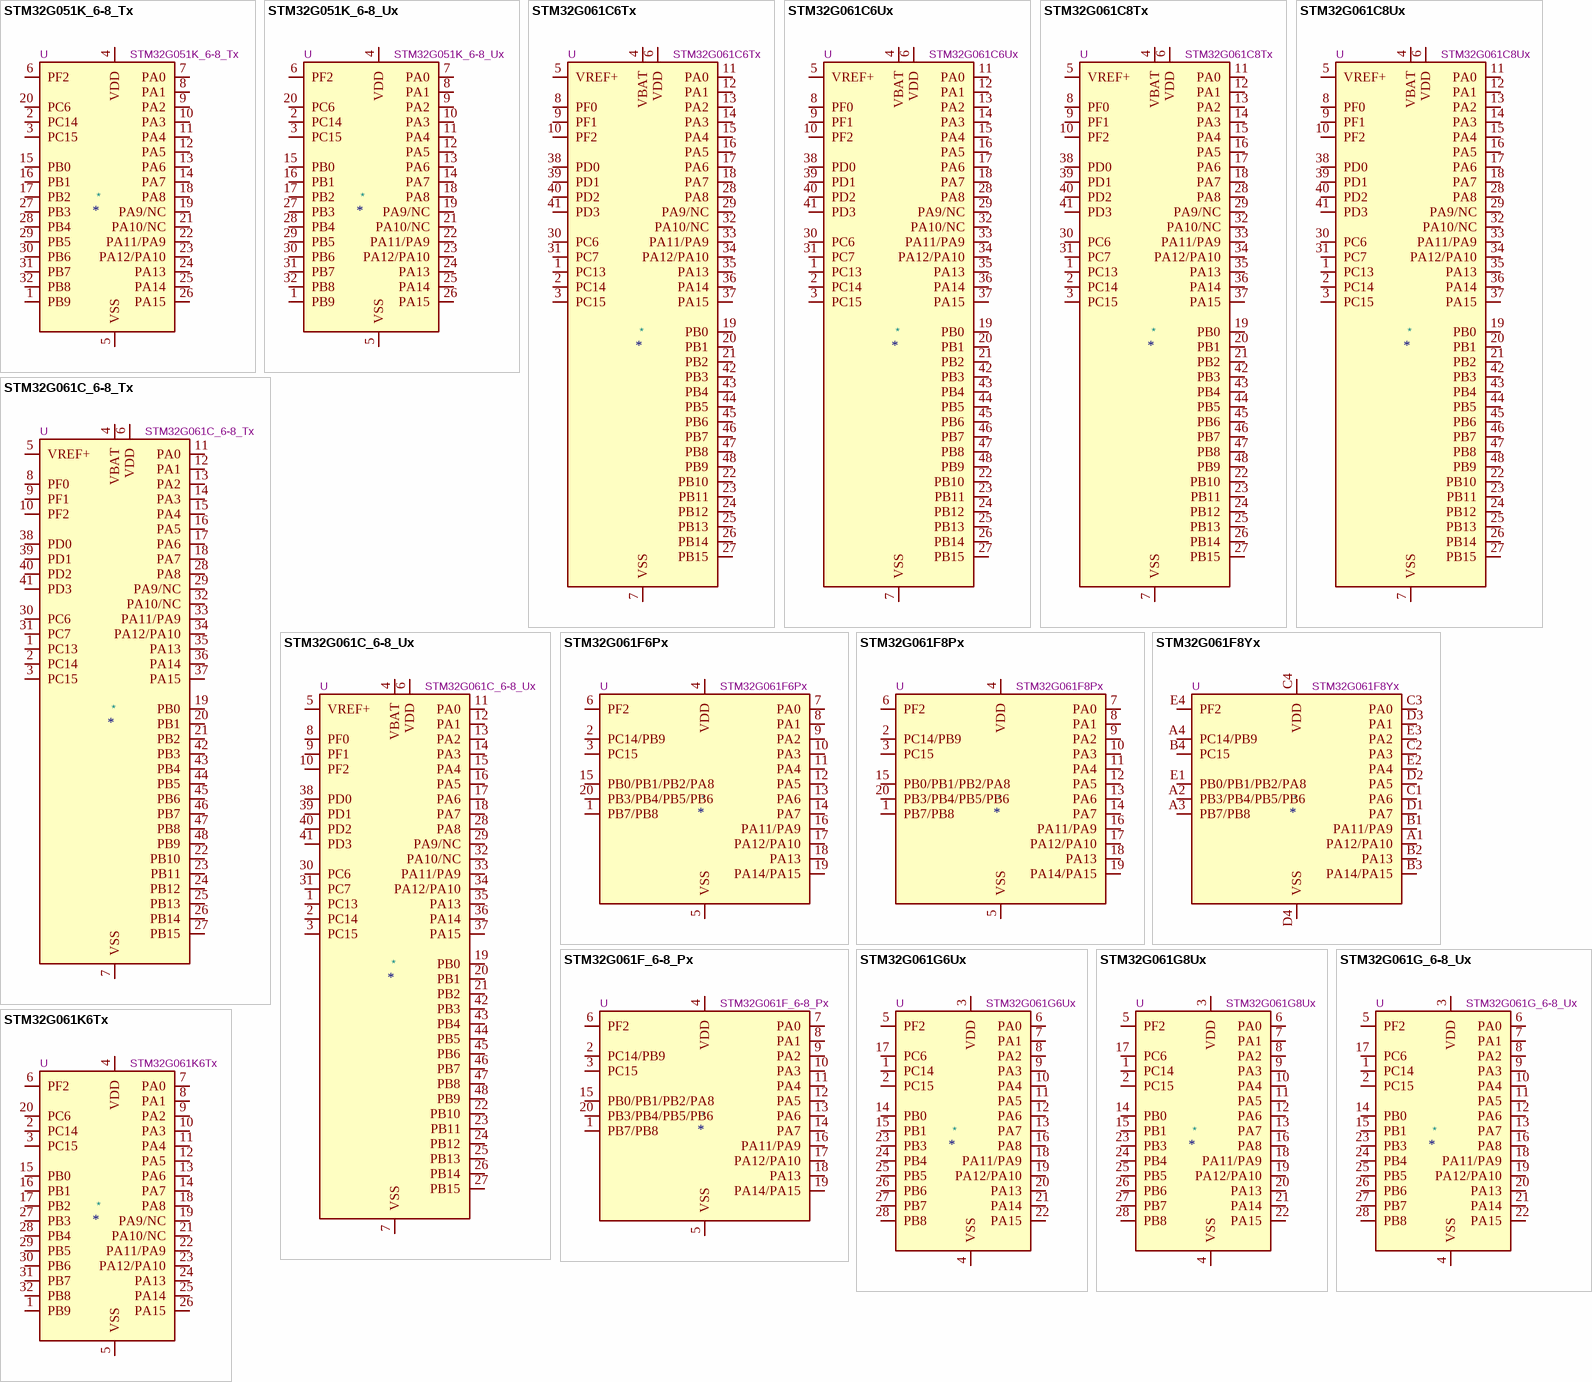
[diagram p15: symbols STM32G051K_6-8_Tx to STM32G061K6Tx]

## STM32G051K_6-8_Tx
designator *  value STM32G051K_6-8_Tx  Reference: U
ki_keywords: Arm Cortex-M0+ STM32G0 STM32G0x1; ki_description: STMicroelectronics Arm Cortex-M0+ MCU, 32-64KB flash, 18KB RAM, 64 MHz, 1.7-3.6V, 30 GPIO, LQFP32; ki_fp_filters: LQFP*7x7mm*P0.8mm*; Footprint: Package_QFP:LQFP-32_7x7mm_P0.8mm; Datasheet: https://www.st.com/resource/en/datasheet/stm32g051k6.pdf
pins: 1 PB9, 2 PC14, 3 PC15, 4 VDD, 5 VSS, 6 PF2, 7 PA0, 8 PA1, 9 PA2, 10 PA3, 11 PA4, 12 PA5, 13 PA6, 14 PA7, 15 PB0, 16 PB1, 17 PB2, 18 PA8, 19 PA9/NC, 20 PC6, 21 PA10/NC, 22 PA11/PA9, 23 PA12/PA10, 24 PA13, 25 PA14, 26 PA15, 27 PB3, 28 PB4, 29 PB5, 30 PB6, 31 PB7, 32 PB8